# Altium integrated library Microchip PIC32MX.IntLib: 556 symbols (part 27 of 38)
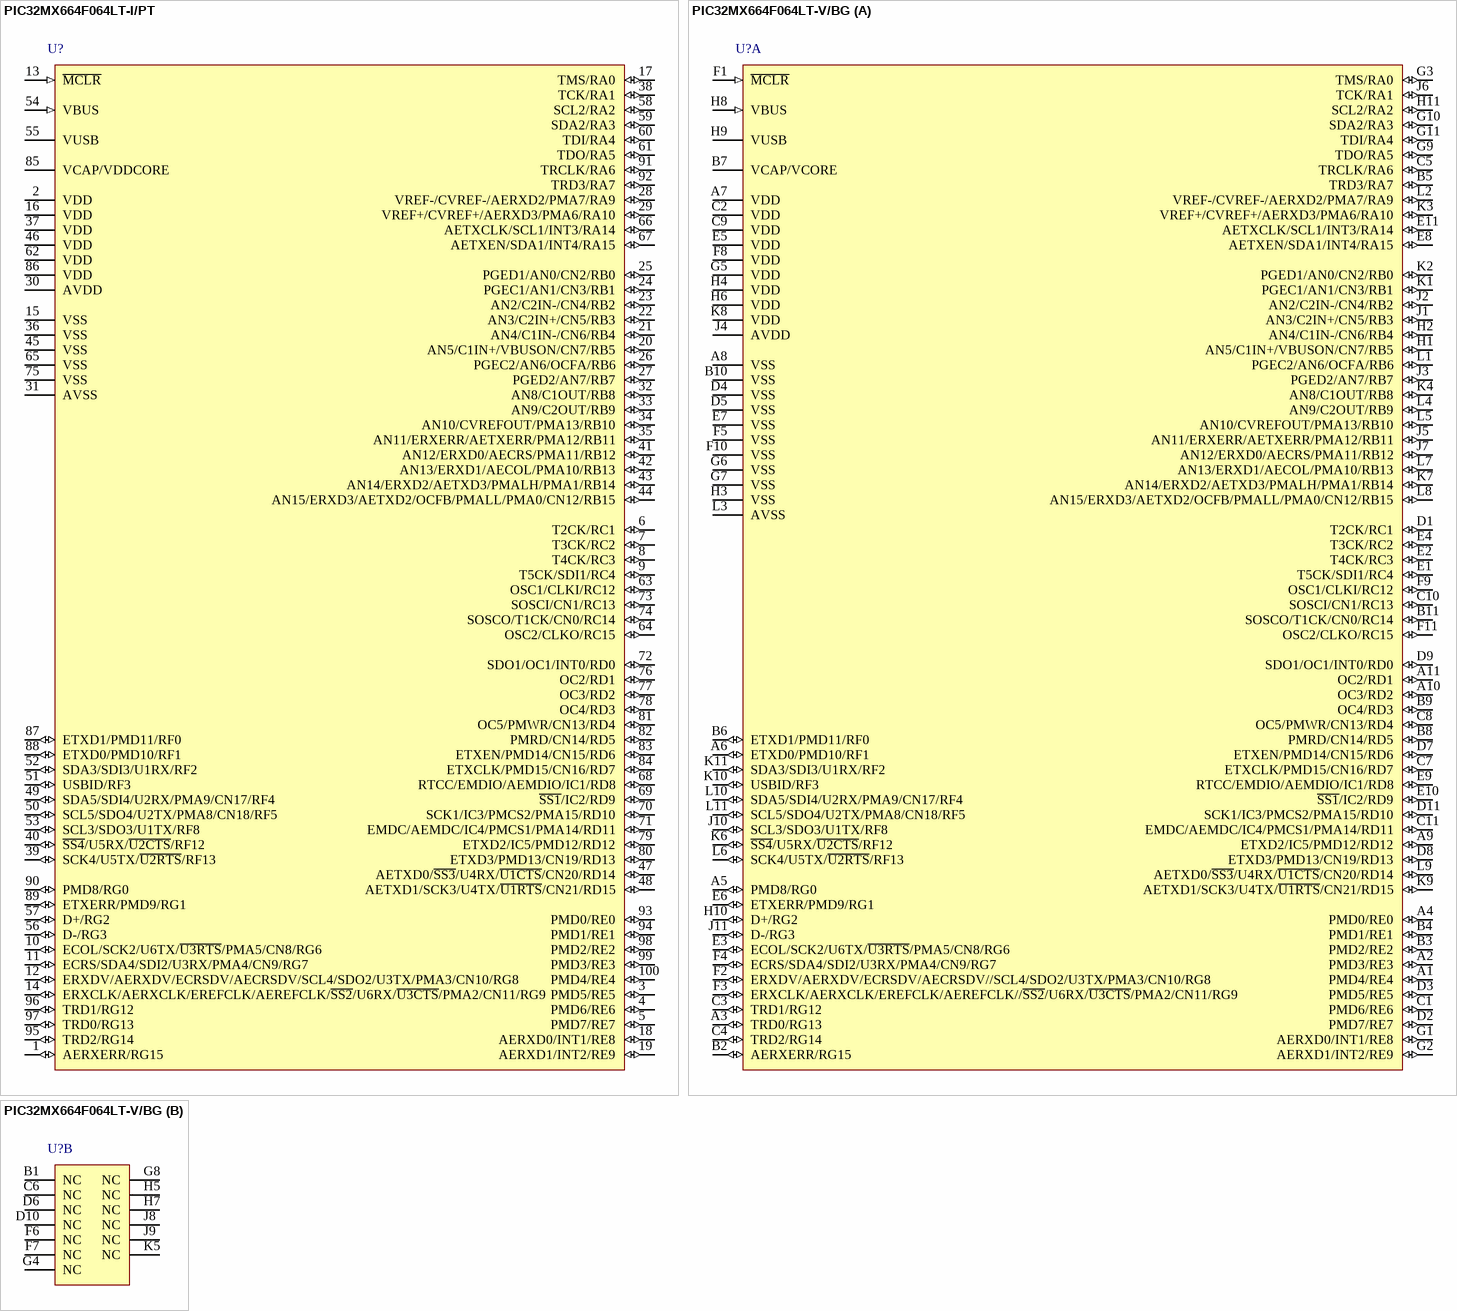
[diagram p218: symbols PIC32MX664F064LT-I/PT to PIC32MX664F064LT-V/BG]

## PIC32MX664F064LT-V/BG
designator U?
High Performance 80 MHz MIPS-Based 32-Bit Flash Microcontroller with USB and Ethernet, 64KB Program Memory, 121-pin XBGA, V-Temperature, Tape and Reel; Manufacturer: Microchip; PartNumber: PIC32MX664F064LT-V/BG; DatasheetVersion: revG, May-2011; PackageVersion: revBB, Aug-2009; PackageReference: XBGA-BG121; PackageDescription: 121-Lead Plastic Thin Profile Ball Grid Array (BG) - 10x10x1.10 mm Body [XBGA]; Supplier 1: Digi-Key; Supplier Part Number 1: PIC32MX664F064LT-V/BG-ND; Mounting Technology: Surface Mount; ComponentLink1Description: Manufacturer URL; ComponentLink1URL: http://www.microchip.com/; ComponentLink2Description: Datasheet; ComponentLink2URL: http://ww1.microchip.com/downloads/en/DeviceDoc/61156G.pdf; ComponentLink3Description: Package Specification; ComponentLink3URL: http://ww1.microchip.com/downloads/en/PackagingSpec/en012702.pdf
footprint XBGA-BG121 (BGA, 121-Leads, Body 10x10mm, Pitch 0.8mm)
part A pins: A1 PMD4/RE4 (io), A2 PMD3/RE3 (io), A3 TRD0/RG13 (io), A4 PMD0/RE0 (io), A5 PMD8/RG0 (io), A6 ETXD0/PMD10/RF1 (io), A7 VDD (power), A8 VSS (power), A9 ETXD2/IC5/PMD12/RD12 (io), A10 OC3/RD2 (io), A11 OC2/RD1 (io), B2 AERXERR/RG15 (io), B3 PMD2/RE2 (io), B4 PMD1/RE1 (io), B5 TRD3/RA7 (io), B6 ETXD1/PMD11/RF0 (io), B7 VCAP/VCORE (power), B8 PMRD/CN14/RD5 (io), B9 OC4/RD3 (io), B10 VSS (power), B11 SOSCO/T1CK/CN0/RC14 (io), C1 PMD6/RE6 (io), C2 VDD (power), C3 TRD1/RG12 (io), C4 TRD2/RG14 (io), C5 TRCLK/RA6 (io), C7 ETXCLK/PMD15/CN16/RD7 (io), C8 OC5/PMWR/CN13/RD4 (io), C9 VDD (power), C10 SOSCI/CN1/RC13 (io), C11 EMDC/AEMDC/IC4/PMCS1/PMA14/RD11 (io), D1 T2CK/RC1 (io), D2 PMD7/RE7 (io), D3 PMD5/RE5 (io), D4 VSS (power), D5 VSS (power), D7 ETXEN/PMD14/CN15/RD6 (io), D8 ETXD3/PMD13/CN19/RD13 (io), D9 SDO1/OC1/INT0/RD0 (io), D11 SCK1/IC3/PMCS2/PMA15/RD10 (io), E1 T5CK/SDI1/RC4 (io), E2 T4CK/RC3 (io), E3 ECOL/SCK2/U6TX/~{U3RTS}/PMA5/CN8/RG6 (io), E4 T3CK/RC2 (io), E5 VDD (power), E6 ETXERR/PMD9/RG1 (io), E7 VSS (power), E8 AETXEN/SDA1/INT4/RA15 (io), E9 RTCC/EMDIO/AEMDIO/IC1/RD8 (io), E10 ~{SS1}/IC2/RD9 (io), E11 AETXCLK/SCL1/INT3/RA14 (io), F1 ~{MCLR} (in), F2 ERXDV/AERXDV/ECRSDV/AECRSDV//SCL4/SDO2/U3TX/PMA3/CN10/RG8 (io), F3 ERXCLK/AERXCLK/EREFCLK/AEREFCLK//~{SS2}/U6RX/~{U3CTS}/PMA2/CN11/RG9 (io), F4 ECRS/SDA4/SDI2/U3RX/PMA4/CN9/RG7 (io), F5 VSS (power), F8 VDD (power), F9 OSC1/CLKI/RC12 (io), F10 VSS (power), F11 OSC2/CLKO/RC15 (io), G1 AERXD0/INT1/RE8 (io), G2 AERXD1/INT2/RE9 (io), G3 TMS/RA0 (io), G5 VDD (power), G6 VSS (power), G7 VSS (power), G9 TDO/RA5 (io), G10 SDA2/RA3 (io), G11 TDI/RA4 (io), H1 AN5/C1IN+/VBUSON/CN7/RB5 (io), H2 AN4/C1IN-/CN6/RB4 (io), H3 VSS (power), H4 VDD (power), H6 VDD (power), H8 VBUS (in), H9 VUSB (power), H10 D+/RG2 (io), H11 SCL2/RA2 (io), J1 AN3/C2IN+/CN5/RB3 (io), J2 AN2/C2IN-/CN4/RB2 (io), J3 PGED2/AN7/RB7 (io), J4 AVDD (power), J5 AN11/ERXERR/AETXERR/PMA12/RB11 (io), J6 TCK/RA1 (io), J7 AN12/ERXD0/AECRS/PMA11/RB12 (io), J10 SCL3/SDO3/U1TX/RF8 (io), J11 D-/RG3 (io), K1 PGEC1/AN1/CN3/RB1 (io), K2 PGED1/AN0/CN2/RB0 (io), K3 VREF+/CVREF+/AERXD3/PMA6/RA10 (io), K4 AN8/C1OUT/RB8 (io), K6 ~{SS4}/U5RX/~{U2CTS}/RF12 (io), K7 AN14/ERXD2/AETXD3/PMALH/PMA1/RB14 (io), K8 VDD (power), K9 AETXD1/SCK3/U4TX/~{U1RTS}/CN21/RD15 (io), K10 USBID/RF3 (io), K11 SDA3/SDI3/U1RX/RF2 (io), L1 PGEC2/AN6/OCFA/RB6 (io), L2 VREF-/CVREF-/AERXD2/PMA7/RA9 (io), L3 AVSS (power), L4 AN9/C2OUT/RB9 (io), L5 AN10/CVREFOUT/PMA13/RB10 (io), L6 SCK4/U5TX/~{U2RTS}/RF13 (io), L7 AN13/ERXD1/AECOL/PMA10/RB13 (io), L8 AN15/ERXD3/AETXD2/OCFB/PMALL/PMA0/CN12/RB15 (io), L9 AETXD0/~{SS3}/U4RX/~{U1CTS}/CN20/RD14 (io), L10 SDA5/SDI4/U2RX/PMA9/CN17/RF4 (io), L11 SCL5/SDO4/U2TX/PMA8/CN18/RF5 (io)
part B pins: B1 NC, C6 NC, D6 NC, D10 NC, F6 NC, F7 NC, G4 NC, G8 NC, H5 NC, H7 NC, J8 NC, J9 NC, K5 NC

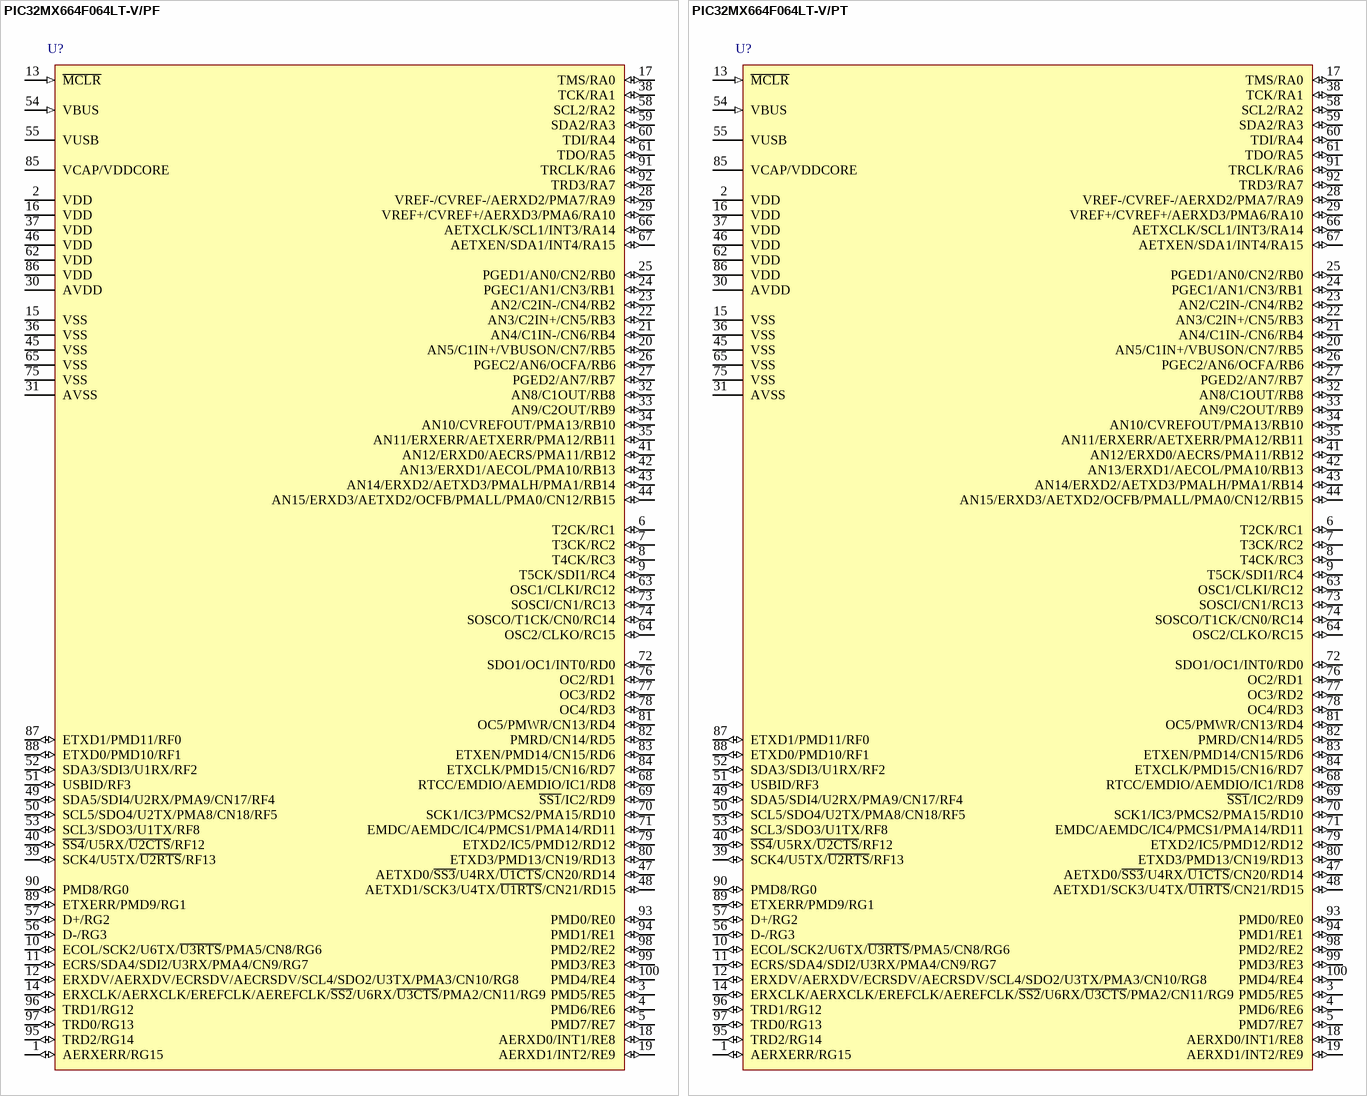
[diagram p128: symbols PIC32MX664F064LT-V/PF to PIC32MX664F064LT-V/PT]

## PIC32MX664F064LT-V/PF
designator U?
High Performance 80 MHz MIPS-Based 32-Bit Flash Microcontroller with USB and Ethernet, 64KB Program Memory, 100-pin TQFP, V-Temperature, Tape and Reel; Manufacturer: Microchip; PartNumber: PIC32MX664F064LT-V/PF; DatasheetVersion: revG, May-2011; PackageVersion: revBB, Aug-2009; PackageReference: TQFP-PF100; PackageDescription: 100-Lead Thin Plastic Quad Flat Pack (PF) - 14x14x1mm Body, 2.00mm [TQFP]; Supplier 1: Digi-Key; Supplier Part Number 1: PIC32MX664F064LT-V/PF-ND; Mounting Technology: Surface Mount; ComponentLink1Description: Manufacturer URL; ComponentLink1URL: http://www.microchip.com/; ComponentLink2Description: Datasheet; ComponentLink2URL: http://ww1.microchip.com/downloads/en/DeviceDoc/61156G.pdf; ComponentLink3Description: Package Specification; ComponentLink3URL: http://ww1.microchip.com/downloads/en/PackagingSpec/en012702.pdf
footprint TQFP-PF100_N (Thin QFP, 100-Leads, Body 14x14mm, Pitch 0.5mm, IPC Medium Density)
footprint TQFP-PF100_L (Thin QFP, 100-Leads, Body 14x14mm, Pitch 0.5mm, IPC High Density)
footprint TQFP-PF100_M (Thin QFP, 100-Leads, Body 14x14mm, Pitch 0.5mm, IPC Low Density)
pins: 1 AERXERR/RG15 (io), 2 VDD (power), 3 PMD5/RE5 (io), 4 PMD6/RE6 (io), 5 PMD7/RE7 (io), 6 T2CK/RC1 (io), 7 T3CK/RC2 (io), 8 T4CK/RC3 (io), 9 T5CK/SDI1/RC4 (io), 10 ECOL/SCK2/U6TX/~{U3RTS}/PMA5/CN8/RG6 (io), 11 ECRS/SDA4/SDI2/U3RX/PMA4/CN9/RG7 (io), 12 ERXDV/AERXDV/ECRSDV/AECRSDV/SCL4/SDO2/U3TX/PMA3/CN10/RG8 (io), 13 ~{MCLR} (in), 14 ERXCLK/AERXCLK/EREFCLK/AEREFCLK/~{SS2}/U6RX/~{U3CTS}/PMA2/CN11/RG9 (io), 15 VSS (power), 16 VDD (power), 17 TMS/RA0 (io), 18 AERXD0/INT1/RE8 (io), 19 AERXD1/INT2/RE9 (io), 20 AN5/C1IN+/VBUSON/CN7/RB5 (io), 21 AN4/C1IN-/CN6/RB4 (io), 22 AN3/C2IN+/CN5/RB3 (io), 23 AN2/C2IN-/CN4/RB2 (io), 24 PGEC1/AN1/CN3/RB1 (io), 25 PGED1/AN0/CN2/RB0 (io), 26 PGEC2/AN6/OCFA/RB6 (io), 27 PGED2/AN7/RB7 (io), 28 VREF-/CVREF-/AERXD2/PMA7/RA9 (io), 29 VREF+/CVREF+/AERXD3/PMA6/RA10 (io), 30 AVDD (power), 31 AVSS (power), 32 AN8/C1OUT/RB8 (io), 33 AN9/C2OUT/RB9 (io), 34 AN10/CVREFOUT/PMA13/RB10 (io), 35 AN11/ERXERR/AETXERR/PMA12/RB11 (io), 36 VSS (power), 37 VDD (power), 38 TCK/RA1 (io), 39 SCK4/U5TX/~{U2RTS}/RF13 (io), 40 ~{SS4}/U5RX/~{U2CTS}/RF12 (io), 41 AN12/ERXD0/AECRS/PMA11/RB12 (io), 42 AN13/ERXD1/AECOL/PMA10/RB13 (io), 43 AN14/ERXD2/AETXD3/PMALH/PMA1/RB14 (io), 44 AN15/ERXD3/AETXD2/OCFB/PMALL/PMA0/CN12/RB15 (io), 45 VSS (power), 46 VDD (power), 47 AETXD0/~{SS3}/U4RX/~{U1CTS}/CN20/RD14 (io), 48 AETXD1/SCK3/U4TX/~{U1RTS}/CN21/RD15 (io), 49 SDA5/SDI4/U2RX/PMA9/CN17/RF4 (io), 50 SCL5/SDO4/U2TX/PMA8/CN18/RF5 (io), 51 USBID/RF3 (io), 52 SDA3/SDI3/U1RX/RF2 (io), 53 SCL3/SDO3/U1TX/RF8 (io), 54 VBUS (in), 55 VUSB (power), 56 D-/RG3 (io), 57 D+/RG2 (io), 58 SCL2/RA2 (io), 59 SDA2/RA3 (io), 60 TDI/RA4 (io), 61 TDO/RA5 (io), 62 VDD (power), 63 OSC1/CLKI/RC12 (io), 64 OSC2/CLKO/RC15 (io), 65 VSS (power), 66 AETXCLK/SCL1/INT3/RA14 (io), 67 AETXEN/SDA1/INT4/RA15 (io), 68 RTCC/EMDIO/AEMDIO/IC1/RD8 (io), 69 ~{SS1}/IC2/RD9 (io), 70 SCK1/IC3/PMCS2/PMA15/RD10 (io), 71 EMDC/AEMDC/IC4/PMCS1/PMA14/RD11 (io), 72 SDO1/OC1/INT0/RD0 (io), 73 SOSCI/CN1/RC13 (io), 74 SOSCO/T1CK/CN0/RC14 (io), 75 VSS (power), 76 OC2/RD1 (io), 77 OC3/RD2 (io), 78 OC4/RD3 (io), 79 ETXD2/IC5/PMD12/RD12 (io), 80 ETXD3/PMD13/CN19/RD13 (io), 81 OC5/PMWR/CN13/RD4 (io), 82 PMRD/CN14/RD5 (io), 83 ETXEN/PMD14/CN15/RD6 (io), 84 ETXCLK/PMD15/CN16/RD7 (io), 85 VCAP/VDDCORE (power), 86 VDD (power), 87 ETXD1/PMD11/RF0 (io), 88 ETXD0/PMD10/RF1 (io), 89 ETXERR/PMD9/RG1 (io), 90 PMD8/RG0 (io), 91 TRCLK/RA6 (io), 92 TRD3/RA7 (io), 93 PMD0/RE0 (io), 94 PMD1/RE1 (io), 95 TRD2/RG14 (io), 96 TRD1/RG12 (io), 97 TRD0/RG13 (io), 98 PMD2/RE2 (io), 99 PMD3/RE3 (io), 100 PMD4/RE4 (io)

## PIC32MX664F064LT-V/PT
designator U?
High Performance 80 MHz MIPS-Based 32-Bit Flash Microcontroller with USB and Ethernet, 64KB Program Memory, 100-pin TQFP, V-Temperature, Tape and Reel; Manufacturer: Microchip; PartNumber: PIC32MX664F064LT-V/PT; DatasheetVersion: revG, May-2011; PackageVersion: revBB, Aug-2009; PackageReference: TQFP-PT100; PackageDescription: 100-Lead Plastic Thin Quad Flatpack (PT) - 12x12x1mm Body, 2.00mm [TQFP]; Supplier 1: Digi-Key; Supplier Part Number 1: PIC32MX664F064LT-V/PT-ND; Mounting Technology: Surface Mount; ComponentLink1Description: Manufacturer URL; ComponentLink1URL: http://www.microchip.com/; ComponentLink2Description: Datasheet; ComponentLink2URL: http://ww1.microchip.com/downloads/en/DeviceDoc/61156G.pdf; ComponentLink3Description: Package Specification; ComponentLink3URL: http://ww1.microchip.com/downloads/en/PackagingSpec/en012702.pdf
footprint TQFP-PT100_N (Thin QFP, 100-Leads, Body 12x12mm, Pitch 0.4mm, IPC Medium Density)
footprint TQFP-PT100_L (Thin QFP, 100-Leads, Body 12x12mm, Pitch 0.4mm, IPC High Density)
footprint TQFP-PT100_M (Thin QFP, 100-Leads, Body 12x12mm, Pitch 0.4mm, IPC Low Density)
pins: 1 AERXERR/RG15 (io), 2 VDD (power), 3 PMD5/RE5 (io), 4 PMD6/RE6 (io), 5 PMD7/RE7 (io), 6 T2CK/RC1 (io), 7 T3CK/RC2 (io), 8 T4CK/RC3 (io), 9 T5CK/SDI1/RC4 (io), 10 ECOL/SCK2/U6TX/~{U3RTS}/PMA5/CN8/RG6 (io), 11 ECRS/SDA4/SDI2/U3RX/PMA4/CN9/RG7 (io), 12 ERXDV/AERXDV/ECRSDV/AECRSDV/SCL4/SDO2/U3TX/PMA3/CN10/RG8 (io), 13 ~{MCLR} (in), 14 ERXCLK/AERXCLK/EREFCLK/AEREFCLK/~{SS2}/U6RX/~{U3CTS}/PMA2/CN11/RG9 (io), 15 VSS (power), 16 VDD (power), 17 TMS/RA0 (io), 18 AERXD0/INT1/RE8 (io), 19 AERXD1/INT2/RE9 (io), 20 AN5/C1IN+/VBUSON/CN7/RB5 (io), 21 AN4/C1IN-/CN6/RB4 (io), 22 AN3/C2IN+/CN5/RB3 (io), 23 AN2/C2IN-/CN4/RB2 (io), 24 PGEC1/AN1/CN3/RB1 (io), 25 PGED1/AN0/CN2/RB0 (io), 26 PGEC2/AN6/OCFA/RB6 (io), 27 PGED2/AN7/RB7 (io), 28 VREF-/CVREF-/AERXD2/PMA7/RA9 (io), 29 VREF+/CVREF+/AERXD3/PMA6/RA10 (io), 30 AVDD (power), 31 AVSS (power), 32 AN8/C1OUT/RB8 (io), 33 AN9/C2OUT/RB9 (io), 34 AN10/CVREFOUT/PMA13/RB10 (io), 35 AN11/ERXERR/AETXERR/PMA12/RB11 (io), 36 VSS (power), 37 VDD (power), 38 TCK/RA1 (io), 39 SCK4/U5TX/~{U2RTS}/RF13 (io), 40 ~{SS4}/U5RX/~{U2CTS}/RF12 (io), 41 AN12/ERXD0/AECRS/PMA11/RB12 (io), 42 AN13/ERXD1/AECOL/PMA10/RB13 (io), 43 AN14/ERXD2/AETXD3/PMALH/PMA1/RB14 (io), 44 AN15/ERXD3/AETXD2/OCFB/PMALL/PMA0/CN12/RB15 (io), 45 VSS (power), 46 VDD (power), 47 AETXD0/~{SS3}/U4RX/~{U1CTS}/CN20/RD14 (io), 48 AETXD1/SCK3/U4TX/~{U1RTS}/CN21/RD15 (io), 49 SDA5/SDI4/U2RX/PMA9/CN17/RF4 (io), 50 SCL5/SDO4/U2TX/PMA8/CN18/RF5 (io), 51 USBID/RF3 (io), 52 SDA3/SDI3/U1RX/RF2 (io), 53 SCL3/SDO3/U1TX/RF8 (io), 54 VBUS (in), 55 VUSB (power), 56 D-/RG3 (io), 57 D+/RG2 (io), 58 SCL2/RA2 (io), 59 SDA2/RA3 (io), 60 TDI/RA4 (io), 61 TDO/RA5 (io), 62 VDD (power), 63 OSC1/CLKI/RC12 (io), 64 OSC2/CLKO/RC15 (io), 65 VSS (power), 66 AETXCLK/SCL1/INT3/RA14 (io), 67 AETXEN/SDA1/INT4/RA15 (io), 68 RTCC/EMDIO/AEMDIO/IC1/RD8 (io), 69 ~{SS1}/IC2/RD9 (io), 70 SCK1/IC3/PMCS2/PMA15/RD10 (io), 71 EMDC/AEMDC/IC4/PMCS1/PMA14/RD11 (io), 72 SDO1/OC1/INT0/RD0 (io), 73 SOSCI/CN1/RC13 (io), 74 SOSCO/T1CK/CN0/RC14 (io), 75 VSS (power), 76 OC2/RD1 (io), 77 OC3/RD2 (io), 78 OC4/RD3 (io), 79 ETXD2/IC5/PMD12/RD12 (io), 80 ETXD3/PMD13/CN19/RD13 (io), 81 OC5/PMWR/CN13/RD4 (io), 82 PMRD/CN14/RD5 (io), 83 ETXEN/PMD14/CN15/RD6 (io), 84 ETXCLK/PMD15/CN16/RD7 (io), 85 VCAP/VDDCORE (power), 86 VDD (power), 87 ETXD1/PMD11/RF0 (io), 88 ETXD0/PMD10/RF1 (io), 89 ETXERR/PMD9/RG1 (io), 90 PMD8/RG0 (io), 91 TRCLK/RA6 (io), 92 TRD3/RA7 (io), 93 PMD0/RE0 (io), 94 PMD1/RE1 (io), 95 TRD2/RG14 (io), 96 TRD1/RG12 (io), 97 TRD0/RG13 (io), 98 PMD2/RE2 (io), 99 PMD3/RE3 (io), 100 PMD4/RE4 (io)

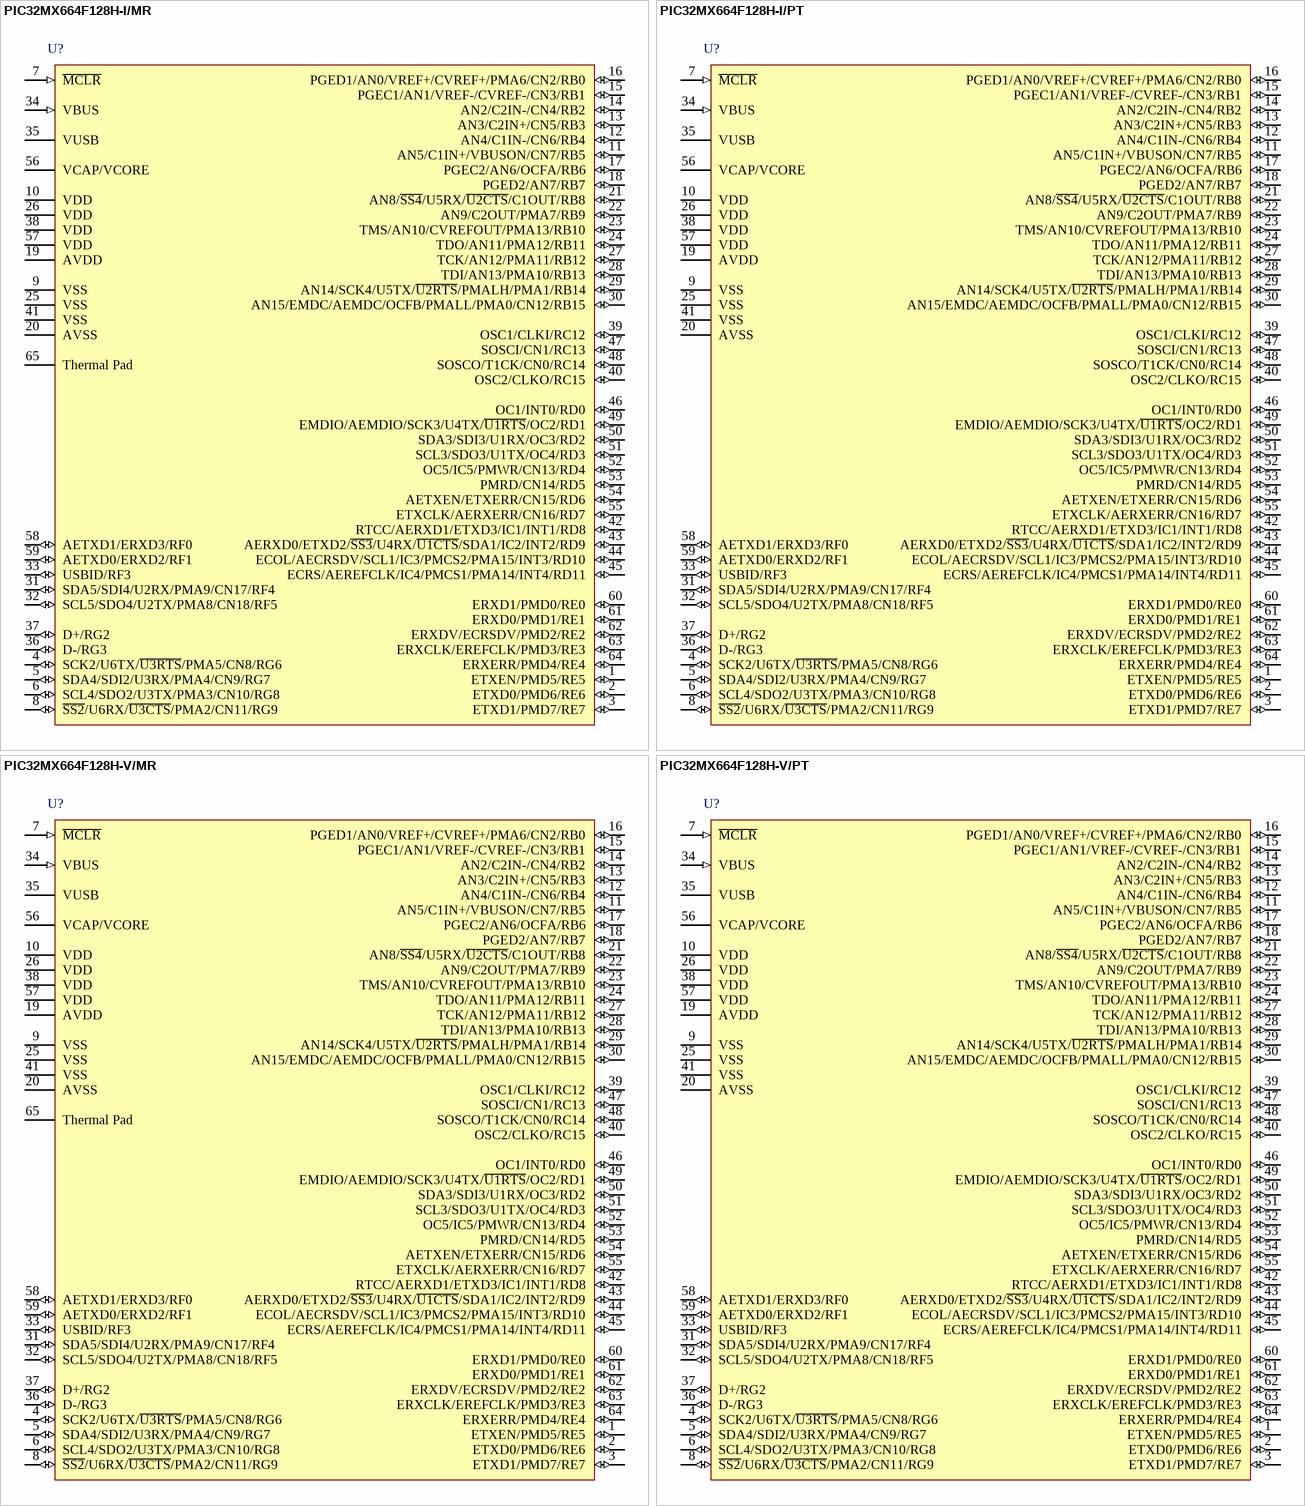
[diagram p129: symbols PIC32MX664F128H-I/MR to PIC32MX664F128H-V/PT]

## PIC32MX664F128H-I/MR
designator U?
High Performance 80 MHz MIPS-Based 32-Bit Flash Microcontroller with USB and Ethernet, 128KB Program Memory, 64-pin QFN, Industrial Temperature; Manufacturer: Microchip; PartNumber: PIC32MX664F128H-I/MR; DatasheetVersion: revG, May-2011; PackageVersion: revBB, Aug-2009; PackageReference: QFN-MR64; PackageDescription: 64-Lead Plastic Quad Flat, No Lead Package (MR) - 9x9x0.9 mm Body [QFN]; Supplier 1: Digi-Key; Supplier Part Number 1: PIC32MX664F128H-I/MR-ND; Mounting Technology: Surface Mount; ComponentLink1Description: Manufacturer URL; ComponentLink1URL: http://www.microchip.com/; ComponentLink2Description: Datasheet; ComponentLink2URL: http://ww1.microchip.com/downloads/en/DeviceDoc/61156G.pdf; ComponentLink3Description: Package Specification; ComponentLink3URL: http://ww1.microchip.com/downloads/en/PackagingSpec/en012702.pdf
footprint QFN-MR64_N (QFN, 64-Leads, Body 9x9mm, Pitch 0.5mm, Thermal Pad 7.5x7.5mm, IPC Medium Density)
footprint QFN-MR64_L (QFN, 64-Leads, Body 9x9mm, Pitch 0.5mm, Thermal Pad 7.5x7.5mm, IPC High Density)
footprint QFN-MR64_M (QFN, 64-Leads, Body 9x9mm, Pitch 0.5mm, Thermal Pad 7.5x7.5mm, IPC Low Density)
pins: 1 ETXEN/PMD5/RE5 (io), 2 ETXD0/PMD6/RE6 (io), 3 ETXD1/PMD7/RE7 (io), 4 SCK2/U6TX/~{U3RTS}/PMA5/CN8/RG6 (io), 5 SDA4/SDI2/U3RX/PMA4/CN9/RG7 (io), 6 SCL4/SDO2/U3TX/PMA3/CN10/RG8 (io), 7 ~{MCLR} (in), 8 ~{SS2}/U6RX/~{U3CTS}/PMA2/CN11/RG9 (io), 9 VSS (power), 10 VDD (power), 11 AN5/C1IN+/VBUSON/CN7/RB5 (io), 12 AN4/C1IN-/CN6/RB4 (io), 13 AN3/C2IN+/CN5/RB3 (io), 14 AN2/C2IN-/CN4/RB2 (io), 15 PGEC1/AN1/VREF-/CVREF-/CN3/RB1 (io), 16 PGED1/AN0/VREF+/CVREF+/PMA6/CN2/RB0 (io), 17 PGEC2/AN6/OCFA/RB6 (io), 18 PGED2/AN7/RB7 (io), 19 AVDD (power), 20 AVSS (power), 21 AN8/~{SS4}/U5RX/~{U2CTS}/C1OUT/RB8 (io), 22 AN9/C2OUT/PMA7/RB9 (io), 23 TMS/AN10/CVREFOUT/PMA13/RB10 (io), 24 TDO/AN11/PMA12/RB11 (io), 25 VSS (power), 26 VDD (power), 27 TCK/AN12/PMA11/RB12 (io), 28 TDI/AN13/PMA10/RB13 (io), 29 AN14/SCK4/U5TX/~{U2RTS}/PMALH/PMA1/RB14 (io), 30 AN15/EMDC/AEMDC/OCFB/PMALL/PMA0/CN12/RB15 (io), 31 SDA5/SDI4/U2RX/PMA9/CN17/RF4 (io), 32 SCL5/SDO4/U2TX/PMA8/CN18/RF5 (io), 33 USBID/RF3 (io), 34 VBUS (in), 35 VUSB (power), 36 D-/RG3 (io), 37 D+/RG2 (io), 38 VDD (power), 39 OSC1/CLKI/RC12 (io), 40 OSC2/CLKO/RC15 (io), 41 VSS (power), 42 RTCC/AERXD1/ETXD3/IC1/INT1/RD8 (io), 43 AERXD0/ETXD2/~{SS3}/U4RX/~{U1CTS}/SDA1/IC2/INT2/RD9 (io), 44 ECOL/AECRSDV/SCL1/IC3/PMCS2/PMA15/INT3/RD10 (io), 45 ECRS/AEREFCLK/IC4/PMCS1/PMA14/INT4/RD11 (io), 46 OC1/INT0/RD0 (io), 47 SOSCI/CN1/RC13 (io), 48 SOSCO/T1CK/CN0/RC14 (io), 49 EMDIO/AEMDIO/SCK3/U4TX/~{U1RTS}/OC2/RD1 (io), 50 SDA3/SDI3/U1RX/OC3/RD2 (io), 51 SCL3/SDO3/U1TX/OC4/RD3 (io), 52 OC5/IC5/PMWR/CN13/RD4 (io), 53 PMRD/CN14/RD5 (io), 54 AETXEN/ETXERR/CN15/RD6 (io), 55 ETXCLK/AERXERR/CN16/RD7 (io), 56 VCAP/VCORE (power), 57 VDD (power), 58 AETXD1/ERXD3/RF0 (io), 59 AETXD0/ERXD2/RF1 (io), 60 ERXD1/PMD0/RE0 (io), 61 ERXD0/PMD1/RE1 (io), 62 ERXDV/ECRSDV/PMD2/RE2 (io), 63 ERXCLK/EREFCLK/PMD3/RE3 (io), 64 ERXERR/PMD4/RE4 (io), 65 Thermal Pad

## PIC32MX664F128H-I/PT
designator U?
High Performance 80 MHz MIPS-Based 32-Bit Flash Microcontroller with USB and Ethernet, 128KB Program Memory, 64-pin TQFP, Industrial Temperature; Manufacturer: Microchip; PartNumber: PIC32MX664F128H-I/PT; DatasheetVersion: revG, May-2011; PackageVersion: revBB, Aug-2009; PackageReference: TQFP-PT64; PackageDescription: 64-Lead Thin Plastic Quad Flat Pack (PT) - 10x10x1mm Body, 2.00mm [TQFP]; Supplier 1: Digi-Key; Supplier Part Number 1: PIC32MX664F128H-I/PT-ND; Mounting Technology: Surface Mount; Code_JEDEC: MS-026; ComponentLink1Description: Manufacturer URL; ComponentLink1URL: http://www.microchip.com/; ComponentLink2Description: Datasheet; ComponentLink2URL: http://ww1.microchip.com/downloads/en/DeviceDoc/61156G.pdf; ComponentLink3Description: Package Specification; ComponentLink3URL: http://ww1.microchip.com/downloads/en/PackagingSpec/en012702.pdf
footprint TQFP-PT64_N (Thin QFP, 64-Leads, Body 10x10mm, Pitch 0.5mm, IPC Medium Density)
footprint TQFP-PT64_L (Thin QFP, 64-Leads, Body 10x10mm, Pitch 0.5mm, IPC High Density)
footprint TQFP-PT64_M (Thin QFP, 64-Leads, Body 10x10mm, Pitch 0.5mm, IPC Low Density)
pins: 1 ETXEN/PMD5/RE5 (io), 2 ETXD0/PMD6/RE6 (io), 3 ETXD1/PMD7/RE7 (io), 4 SCK2/U6TX/~{U3RTS}/PMA5/CN8/RG6 (io), 5 SDA4/SDI2/U3RX/PMA4/CN9/RG7 (io), 6 SCL4/SDO2/U3TX/PMA3/CN10/RG8 (io), 7 ~{MCLR} (in), 8 ~{SS2}/U6RX/~{U3CTS}/PMA2/CN11/RG9 (io), 9 VSS (power), 10 VDD (power), 11 AN5/C1IN+/VBUSON/CN7/RB5 (io), 12 AN4/C1IN-/CN6/RB4 (io), 13 AN3/C2IN+/CN5/RB3 (io), 14 AN2/C2IN-/CN4/RB2 (io), 15 PGEC1/AN1/VREF-/CVREF-/CN3/RB1 (io), 16 PGED1/AN0/VREF+/CVREF+/PMA6/CN2/RB0 (io), 17 PGEC2/AN6/OCFA/RB6 (io), 18 PGED2/AN7/RB7 (io), 19 AVDD (power), 20 AVSS (power), 21 AN8/~{SS4}/U5RX/~{U2CTS}/C1OUT/RB8 (io), 22 AN9/C2OUT/PMA7/RB9 (io), 23 TMS/AN10/CVREFOUT/PMA13/RB10 (io), 24 TDO/AN11/PMA12/RB11 (io), 25 VSS (power), 26 VDD (power), 27 TCK/AN12/PMA11/RB12 (io), 28 TDI/AN13/PMA10/RB13 (io), 29 AN14/SCK4/U5TX/~{U2RTS}/PMALH/PMA1/RB14 (io), 30 AN15/EMDC/AEMDC/OCFB/PMALL/PMA0/CN12/RB15 (io), 31 SDA5/SDI4/U2RX/PMA9/CN17/RF4 (io), 32 SCL5/SDO4/U2TX/PMA8/CN18/RF5 (io), 33 USBID/RF3 (io), 34 VBUS (in), 35 VUSB (power), 36 D-/RG3 (io), 37 D+/RG2 (io), 38 VDD (power), 39 OSC1/CLKI/RC12 (io), 40 OSC2/CLKO/RC15 (io), 41 VSS (power), 42 RTCC/AERXD1/ETXD3/IC1/INT1/RD8 (io), 43 AERXD0/ETXD2/~{SS3}/U4RX/~{U1CTS}/SDA1/IC2/INT2/RD9 (io), 44 ECOL/AECRSDV/SCL1/IC3/PMCS2/PMA15/INT3/RD10 (io), 45 ECRS/AEREFCLK/IC4/PMCS1/PMA14/INT4/RD11 (io), 46 OC1/INT0/RD0 (io), 47 SOSCI/CN1/RC13 (io), 48 SOSCO/T1CK/CN0/RC14 (io), 49 EMDIO/AEMDIO/SCK3/U4TX/~{U1RTS}/OC2/RD1 (io), 50 SDA3/SDI3/U1RX/OC3/RD2 (io), 51 SCL3/SDO3/U1TX/OC4/RD3 (io), 52 OC5/IC5/PMWR/CN13/RD4 (io), 53 PMRD/CN14/RD5 (io), 54 AETXEN/ETXERR/CN15/RD6 (io), 55 ETXCLK/AERXERR/CN16/RD7 (io), 56 VCAP/VCORE (power), 57 VDD (power), 58 AETXD1/ERXD3/RF0 (io), 59 AETXD0/ERXD2/RF1 (io), 60 ERXD1/PMD0/RE0 (io), 61 ERXD0/PMD1/RE1 (io), 62 ERXDV/ECRSDV/PMD2/RE2 (io), 63 ERXCLK/EREFCLK/PMD3/RE3 (io), 64 ERXERR/PMD4/RE4 (io)

## PIC32MX664F128H-V/MR
designator U?
High Performance 80 MHz MIPS-Based 32-Bit Flash Microcontroller with USB and Ethernet, 128KB Program Memory, 64-pin QFN, V-Temperature; Manufacturer: Microchip; PartNumber: PIC32MX664F128H-V/MR; DatasheetVersion: revG, May-2011; PackageVersion: revBB, Aug-2009; PackageReference: QFN-MR64; PackageDescription: 64-Lead Plastic Quad Flat, No Lead Package (MR) - 9x9x0.9 mm Body [QFN]; Supplier 1: Digi-Key; Supplier Part Number 1: PIC32MX664F128H-V/MR-ND; Mounting Technology: Surface Mount; ComponentLink1Description: Manufacturer URL; ComponentLink1URL: http://www.microchip.com/; ComponentLink2Description: Datasheet; ComponentLink2URL: http://ww1.microchip.com/downloads/en/DeviceDoc/61156G.pdf; ComponentLink3Description: Package Specification; ComponentLink3URL: http://ww1.microchip.com/downloads/en/PackagingSpec/en012702.pdf
footprint QFN-MR64_N (QFN, 64-Leads, Body 9x9mm, Pitch 0.5mm, Thermal Pad 7.5x7.5mm, IPC Medium Density)
footprint QFN-MR64_L (QFN, 64-Leads, Body 9x9mm, Pitch 0.5mm, Thermal Pad 7.5x7.5mm, IPC High Density)
footprint QFN-MR64_M (QFN, 64-Leads, Body 9x9mm, Pitch 0.5mm, Thermal Pad 7.5x7.5mm, IPC Low Density)
pins: 1 ETXEN/PMD5/RE5 (io), 2 ETXD0/PMD6/RE6 (io), 3 ETXD1/PMD7/RE7 (io), 4 SCK2/U6TX/~{U3RTS}/PMA5/CN8/RG6 (io), 5 SDA4/SDI2/U3RX/PMA4/CN9/RG7 (io), 6 SCL4/SDO2/U3TX/PMA3/CN10/RG8 (io), 7 ~{MCLR} (in), 8 ~{SS2}/U6RX/~{U3CTS}/PMA2/CN11/RG9 (io), 9 VSS (power), 10 VDD (power), 11 AN5/C1IN+/VBUSON/CN7/RB5 (io), 12 AN4/C1IN-/CN6/RB4 (io), 13 AN3/C2IN+/CN5/RB3 (io), 14 AN2/C2IN-/CN4/RB2 (io), 15 PGEC1/AN1/VREF-/CVREF-/CN3/RB1 (io), 16 PGED1/AN0/VREF+/CVREF+/PMA6/CN2/RB0 (io), 17 PGEC2/AN6/OCFA/RB6 (io), 18 PGED2/AN7/RB7 (io), 19 AVDD (power), 20 AVSS (power), 21 AN8/~{SS4}/U5RX/~{U2CTS}/C1OUT/RB8 (io), 22 AN9/C2OUT/PMA7/RB9 (io), 23 TMS/AN10/CVREFOUT/PMA13/RB10 (io), 24 TDO/AN11/PMA12/RB11 (io), 25 VSS (power), 26 VDD (power), 27 TCK/AN12/PMA11/RB12 (io), 28 TDI/AN13/PMA10/RB13 (io), 29 AN14/SCK4/U5TX/~{U2RTS}/PMALH/PMA1/RB14 (io), 30 AN15/EMDC/AEMDC/OCFB/PMALL/PMA0/CN12/RB15 (io), 31 SDA5/SDI4/U2RX/PMA9/CN17/RF4 (io), 32 SCL5/SDO4/U2TX/PMA8/CN18/RF5 (io), 33 USBID/RF3 (io), 34 VBUS (in), 35 VUSB (power), 36 D-/RG3 (io), 37 D+/RG2 (io), 38 VDD (power), 39 OSC1/CLKI/RC12 (io), 40 OSC2/CLKO/RC15 (io), 41 VSS (power), 42 RTCC/AERXD1/ETXD3/IC1/INT1/RD8 (io), 43 AERXD0/ETXD2/~{SS3}/U4RX/~{U1CTS}/SDA1/IC2/INT2/RD9 (io), 44 ECOL/AECRSDV/SCL1/IC3/PMCS2/PMA15/INT3/RD10 (io), 45 ECRS/AEREFCLK/IC4/PMCS1/PMA14/INT4/RD11 (io), 46 OC1/INT0/RD0 (io), 47 SOSCI/CN1/RC13 (io), 48 SOSCO/T1CK/CN0/RC14 (io), 49 EMDIO/AEMDIO/SCK3/U4TX/~{U1RTS}/OC2/RD1 (io), 50 SDA3/SDI3/U1RX/OC3/RD2 (io), 51 SCL3/SDO3/U1TX/OC4/RD3 (io), 52 OC5/IC5/PMWR/CN13/RD4 (io), 53 PMRD/CN14/RD5 (io), 54 AETXEN/ETXERR/CN15/RD6 (io), 55 ETXCLK/AERXERR/CN16/RD7 (io), 56 VCAP/VCORE (power), 57 VDD (power), 58 AETXD1/ERXD3/RF0 (io), 59 AETXD0/ERXD2/RF1 (io), 60 ERXD1/PMD0/RE0 (io), 61 ERXD0/PMD1/RE1 (io), 62 ERXDV/ECRSDV/PMD2/RE2 (io), 63 ERXCLK/EREFCLK/PMD3/RE3 (io), 64 ERXERR/PMD4/RE4 (io), 65 Thermal Pad

## PIC32MX664F128H-V/PT
designator U?
High Performance 80 MHz MIPS-Based 32-Bit Flash Microcontroller with USB and Ethernet, 128KB Program Memory, 64-pin TQFP, V-Temperature; Manufacturer: Microchip; PartNumber: PIC32MX664F128H-V/PT; DatasheetVersion: revG, May-2011; PackageVersion: revBB, Aug-2009; PackageReference: TQFP-PT64; PackageDescription: 64-Lead Thin Plastic Quad Flat Pack (PT) - 10x10x1mm Body, 2.00mm [TQFP]; Supplier 1: Digi-Key; Supplier Part Number 1: PIC32MX664F128H-V/PT-ND; Mounting Technology: Surface Mount; Code_JEDEC: MS-026; ComponentLink1Description: Manufacturer URL; ComponentLink1URL: http://www.microchip.com/; ComponentLink2Description: Datasheet; ComponentLink2URL: http://ww1.microchip.com/downloads/en/DeviceDoc/61156G.pdf; ComponentLink3Description: Package Specification; ComponentLink3URL: http://ww1.microchip.com/downloads/en/PackagingSpec/en012702.pdf
footprint TQFP-PT64_N (Thin QFP, 64-Leads, Body 10x10mm, Pitch 0.5mm, IPC Medium Density)
footprint TQFP-PT64_L (Thin QFP, 64-Leads, Body 10x10mm, Pitch 0.5mm, IPC High Density)
footprint TQFP-PT64_M (Thin QFP, 64-Leads, Body 10x10mm, Pitch 0.5mm, IPC Low Density)
pins: 1 ETXEN/PMD5/RE5 (io), 2 ETXD0/PMD6/RE6 (io), 3 ETXD1/PMD7/RE7 (io), 4 SCK2/U6TX/~{U3RTS}/PMA5/CN8/RG6 (io), 5 SDA4/SDI2/U3RX/PMA4/CN9/RG7 (io), 6 SCL4/SDO2/U3TX/PMA3/CN10/RG8 (io), 7 ~{MCLR} (in), 8 ~{SS2}/U6RX/~{U3CTS}/PMA2/CN11/RG9 (io), 9 VSS (power), 10 VDD (power), 11 AN5/C1IN+/VBUSON/CN7/RB5 (io), 12 AN4/C1IN-/CN6/RB4 (io), 13 AN3/C2IN+/CN5/RB3 (io), 14 AN2/C2IN-/CN4/RB2 (io), 15 PGEC1/AN1/VREF-/CVREF-/CN3/RB1 (io), 16 PGED1/AN0/VREF+/CVREF+/PMA6/CN2/RB0 (io), 17 PGEC2/AN6/OCFA/RB6 (io), 18 PGED2/AN7/RB7 (io), 19 AVDD (power), 20 AVSS (power), 21 AN8/~{SS4}/U5RX/~{U2CTS}/C1OUT/RB8 (io), 22 AN9/C2OUT/PMA7/RB9 (io), 23 TMS/AN10/CVREFOUT/PMA13/RB10 (io), 24 TDO/AN11/PMA12/RB11 (io), 25 VSS (power), 26 VDD (power), 27 TCK/AN12/PMA11/RB12 (io), 28 TDI/AN13/PMA10/RB13 (io), 29 AN14/SCK4/U5TX/~{U2RTS}/PMALH/PMA1/RB14 (io), 30 AN15/EMDC/AEMDC/OCFB/PMALL/PMA0/CN12/RB15 (io), 31 SDA5/SDI4/U2RX/PMA9/CN17/RF4 (io), 32 SCL5/SDO4/U2TX/PMA8/CN18/RF5 (io), 33 USBID/RF3 (io), 34 VBUS (in), 35 VUSB (power), 36 D-/RG3 (io), 37 D+/RG2 (io), 38 VDD (power), 39 OSC1/CLKI/RC12 (io), 40 OSC2/CLKO/RC15 (io), 41 VSS (power), 42 RTCC/AERXD1/ETXD3/IC1/INT1/RD8 (io), 43 AERXD0/ETXD2/~{SS3}/U4RX/~{U1CTS}/SDA1/IC2/INT2/RD9 (io), 44 ECOL/AECRSDV/SCL1/IC3/PMCS2/PMA15/INT3/RD10 (io), 45 ECRS/AEREFCLK/IC4/PMCS1/PMA14/INT4/RD11 (io), 46 OC1/INT0/RD0 (io), 47 SOSCI/CN1/RC13 (io), 48 SOSCO/T1CK/CN0/RC14 (io), 49 EMDIO/AEMDIO/SCK3/U4TX/~{U1RTS}/OC2/RD1 (io), 50 SDA3/SDI3/U1RX/OC3/RD2 (io), 51 SCL3/SDO3/U1TX/OC4/RD3 (io), 52 OC5/IC5/PMWR/CN13/RD4 (io), 53 PMRD/CN14/RD5 (io), 54 AETXEN/ETXERR/CN15/RD6 (io), 55 ETXCLK/AERXERR/CN16/RD7 (io), 56 VCAP/VCORE (power), 57 VDD (power), 58 AETXD1/ERXD3/RF0 (io), 59 AETXD0/ERXD2/RF1 (io), 60 ERXD1/PMD0/RE0 (io), 61 ERXD0/PMD1/RE1 (io), 62 ERXDV/ECRSDV/PMD2/RE2 (io), 63 ERXCLK/EREFCLK/PMD3/RE3 (io), 64 ERXERR/PMD4/RE4 (io)

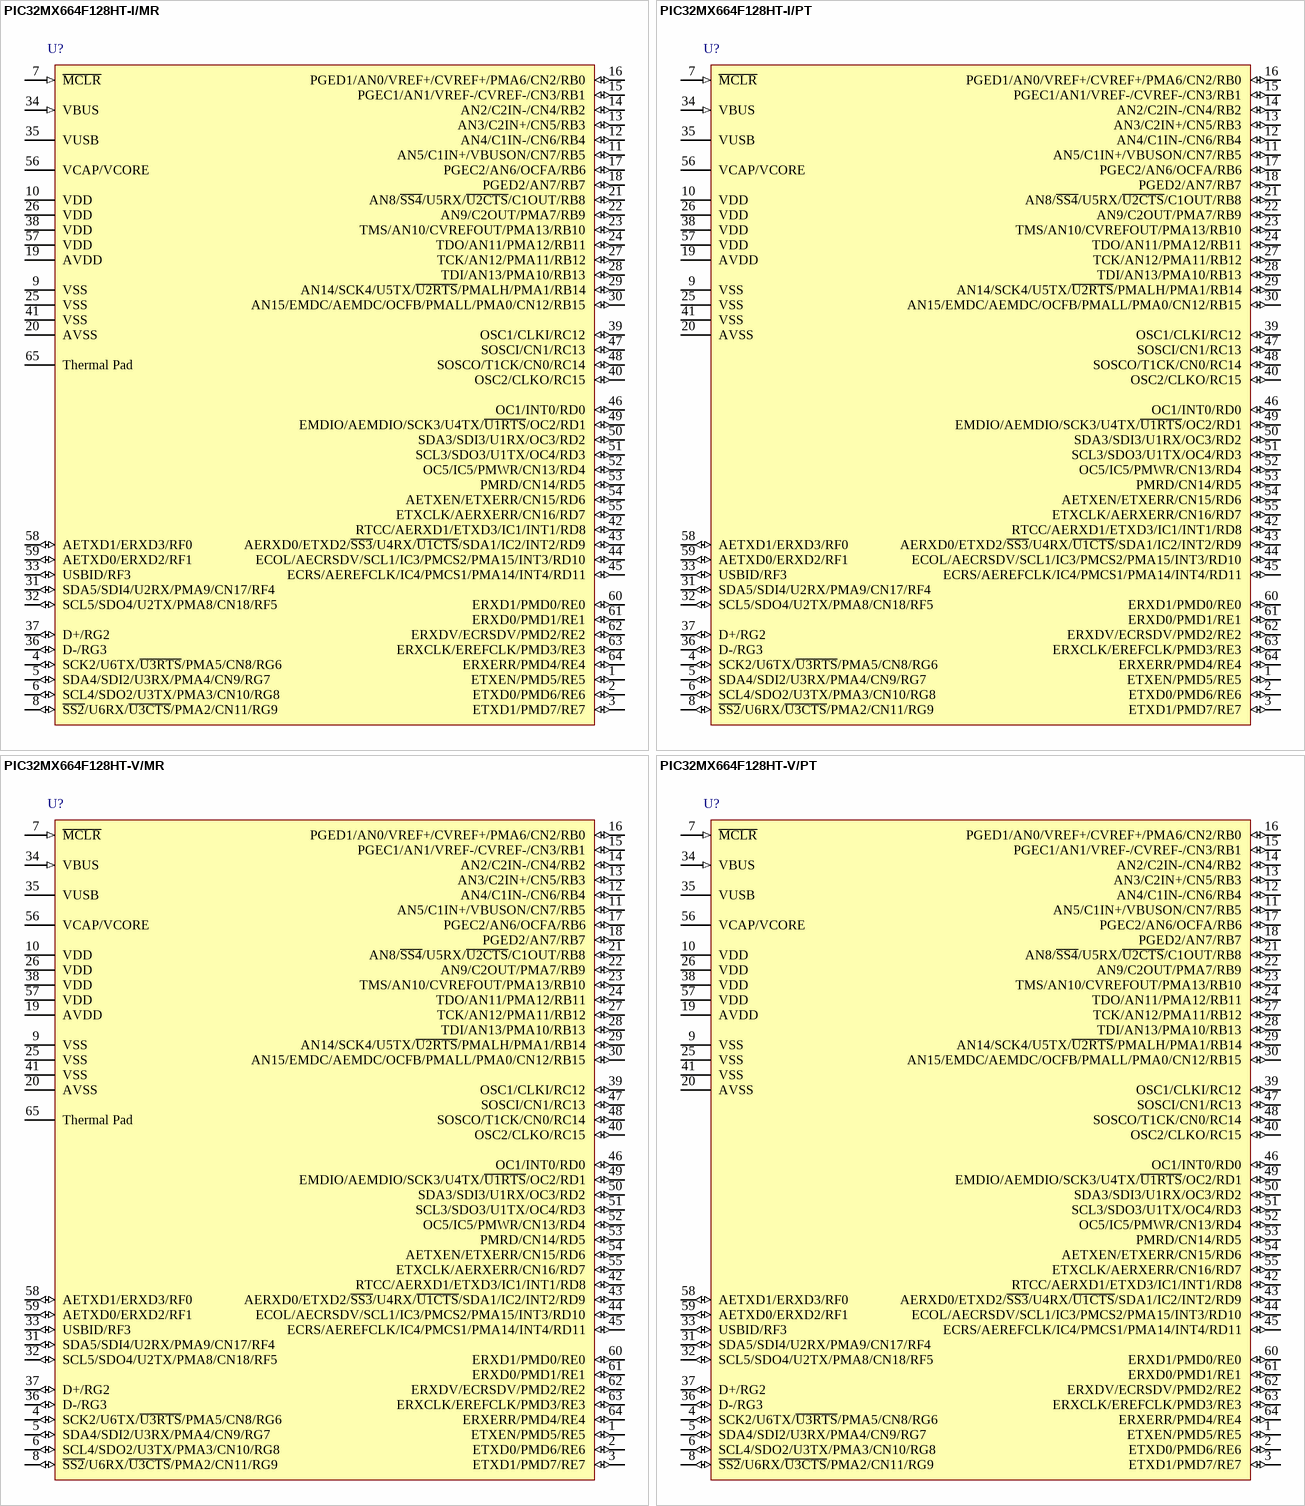
[diagram p130: symbols PIC32MX664F128HT-I/MR to PIC32MX664F128HT-V/PT]

## PIC32MX664F128HT-I/MR
designator U?
High Performance 80 MHz MIPS-Based 32-Bit Flash Microcontroller with USB and Ethernet, 128KB Program Memory, 64-pin QFN, Industrial Temperature, Tape and Reel; Manufacturer: Microchip; PartNumber: PIC32MX664F128HT-I/MR; DatasheetVersion: revG, May-2011; PackageVersion: revBB, Aug-2009; PackageReference: QFN-MR64; PackageDescription: 64-Lead Plastic Quad Flat, No Lead Package (MR) - 9x9x0.9 mm Body [QFN]; Supplier 1: Digi-Key; Supplier Part Number 1: PIC32MX664F128HT-I/MR-ND; Mounting Technology: Surface Mount; ComponentLink1Description: Manufacturer URL; ComponentLink1URL: http://www.microchip.com/; ComponentLink2Description: Datasheet; ComponentLink2URL: http://ww1.microchip.com/downloads/en/DeviceDoc/61156G.pdf; ComponentLink3Description: Package Specification; ComponentLink3URL: http://ww1.microchip.com/downloads/en/PackagingSpec/en012702.pdf
footprint QFN-MR64_N (QFN, 64-Leads, Body 9x9mm, Pitch 0.5mm, Thermal Pad 7.5x7.5mm, IPC Medium Density)
footprint QFN-MR64_L (QFN, 64-Leads, Body 9x9mm, Pitch 0.5mm, Thermal Pad 7.5x7.5mm, IPC High Density)
footprint QFN-MR64_M (QFN, 64-Leads, Body 9x9mm, Pitch 0.5mm, Thermal Pad 7.5x7.5mm, IPC Low Density)
pins: 1 ETXEN/PMD5/RE5 (io), 2 ETXD0/PMD6/RE6 (io), 3 ETXD1/PMD7/RE7 (io), 4 SCK2/U6TX/~{U3RTS}/PMA5/CN8/RG6 (io), 5 SDA4/SDI2/U3RX/PMA4/CN9/RG7 (io), 6 SCL4/SDO2/U3TX/PMA3/CN10/RG8 (io), 7 ~{MCLR} (in), 8 ~{SS2}/U6RX/~{U3CTS}/PMA2/CN11/RG9 (io), 9 VSS (power), 10 VDD (power), 11 AN5/C1IN+/VBUSON/CN7/RB5 (io), 12 AN4/C1IN-/CN6/RB4 (io), 13 AN3/C2IN+/CN5/RB3 (io), 14 AN2/C2IN-/CN4/RB2 (io), 15 PGEC1/AN1/VREF-/CVREF-/CN3/RB1 (io), 16 PGED1/AN0/VREF+/CVREF+/PMA6/CN2/RB0 (io), 17 PGEC2/AN6/OCFA/RB6 (io), 18 PGED2/AN7/RB7 (io), 19 AVDD (power), 20 AVSS (power), 21 AN8/~{SS4}/U5RX/~{U2CTS}/C1OUT/RB8 (io), 22 AN9/C2OUT/PMA7/RB9 (io), 23 TMS/AN10/CVREFOUT/PMA13/RB10 (io), 24 TDO/AN11/PMA12/RB11 (io), 25 VSS (power), 26 VDD (power), 27 TCK/AN12/PMA11/RB12 (io), 28 TDI/AN13/PMA10/RB13 (io), 29 AN14/SCK4/U5TX/~{U2RTS}/PMALH/PMA1/RB14 (io), 30 AN15/EMDC/AEMDC/OCFB/PMALL/PMA0/CN12/RB15 (io), 31 SDA5/SDI4/U2RX/PMA9/CN17/RF4 (io), 32 SCL5/SDO4/U2TX/PMA8/CN18/RF5 (io), 33 USBID/RF3 (io), 34 VBUS (in), 35 VUSB (power), 36 D-/RG3 (io), 37 D+/RG2 (io), 38 VDD (power), 39 OSC1/CLKI/RC12 (io), 40 OSC2/CLKO/RC15 (io), 41 VSS (power), 42 RTCC/AERXD1/ETXD3/IC1/INT1/RD8 (io), 43 AERXD0/ETXD2/~{SS3}/U4RX/~{U1CTS}/SDA1/IC2/INT2/RD9 (io), 44 ECOL/AECRSDV/SCL1/IC3/PMCS2/PMA15/INT3/RD10 (io), 45 ECRS/AEREFCLK/IC4/PMCS1/PMA14/INT4/RD11 (io), 46 OC1/INT0/RD0 (io), 47 SOSCI/CN1/RC13 (io), 48 SOSCO/T1CK/CN0/RC14 (io), 49 EMDIO/AEMDIO/SCK3/U4TX/~{U1RTS}/OC2/RD1 (io), 50 SDA3/SDI3/U1RX/OC3/RD2 (io), 51 SCL3/SDO3/U1TX/OC4/RD3 (io), 52 OC5/IC5/PMWR/CN13/RD4 (io), 53 PMRD/CN14/RD5 (io), 54 AETXEN/ETXERR/CN15/RD6 (io), 55 ETXCLK/AERXERR/CN16/RD7 (io), 56 VCAP/VCORE (power), 57 VDD (power), 58 AETXD1/ERXD3/RF0 (io), 59 AETXD0/ERXD2/RF1 (io), 60 ERXD1/PMD0/RE0 (io), 61 ERXD0/PMD1/RE1 (io), 62 ERXDV/ECRSDV/PMD2/RE2 (io), 63 ERXCLK/EREFCLK/PMD3/RE3 (io), 64 ERXERR/PMD4/RE4 (io), 65 Thermal Pad

## PIC32MX664F128HT-I/PT
designator U?
High Performance 80 MHz MIPS-Based 32-Bit Flash Microcontroller with USB and Ethernet, 128KB Program Memory, 64-pin TQFP, Industrial Temperature, Tape and Reel; Manufacturer: Microchip; PartNumber: PIC32MX664F128HT-I/PT; DatasheetVersion: revG, May-2011; PackageVersion: revBB, Aug-2009; PackageReference: TQFP-PT64; PackageDescription: 64-Lead Thin Plastic Quad Flat Pack (PT) - 10x10x1mm Body, 2.00mm [TQFP]; Supplier 1: Digi-Key; Supplier Part Number 1: PIC32MX664F128HT-I/PT-ND; Mounting Technology: Surface Mount; Code_JEDEC: MS-026; ComponentLink1Description: Manufacturer URL; ComponentLink1URL: http://www.microchip.com/; ComponentLink2Description: Datasheet; ComponentLink2URL: http://ww1.microchip.com/downloads/en/DeviceDoc/61156G.pdf; ComponentLink3Description: Package Specification; ComponentLink3URL: http://ww1.microchip.com/downloads/en/PackagingSpec/en012702.pdf
footprint TQFP-PT64_N (Thin QFP, 64-Leads, Body 10x10mm, Pitch 0.5mm, IPC Medium Density)
footprint TQFP-PT64_L (Thin QFP, 64-Leads, Body 10x10mm, Pitch 0.5mm, IPC High Density)
footprint TQFP-PT64_M (Thin QFP, 64-Leads, Body 10x10mm, Pitch 0.5mm, IPC Low Density)
pins: 1 ETXEN/PMD5/RE5 (io), 2 ETXD0/PMD6/RE6 (io), 3 ETXD1/PMD7/RE7 (io), 4 SCK2/U6TX/~{U3RTS}/PMA5/CN8/RG6 (io), 5 SDA4/SDI2/U3RX/PMA4/CN9/RG7 (io), 6 SCL4/SDO2/U3TX/PMA3/CN10/RG8 (io), 7 ~{MCLR} (in), 8 ~{SS2}/U6RX/~{U3CTS}/PMA2/CN11/RG9 (io), 9 VSS (power), 10 VDD (power), 11 AN5/C1IN+/VBUSON/CN7/RB5 (io), 12 AN4/C1IN-/CN6/RB4 (io), 13 AN3/C2IN+/CN5/RB3 (io), 14 AN2/C2IN-/CN4/RB2 (io), 15 PGEC1/AN1/VREF-/CVREF-/CN3/RB1 (io), 16 PGED1/AN0/VREF+/CVREF+/PMA6/CN2/RB0 (io), 17 PGEC2/AN6/OCFA/RB6 (io), 18 PGED2/AN7/RB7 (io), 19 AVDD (power), 20 AVSS (power), 21 AN8/~{SS4}/U5RX/~{U2CTS}/C1OUT/RB8 (io), 22 AN9/C2OUT/PMA7/RB9 (io), 23 TMS/AN10/CVREFOUT/PMA13/RB10 (io), 24 TDO/AN11/PMA12/RB11 (io), 25 VSS (power), 26 VDD (power), 27 TCK/AN12/PMA11/RB12 (io), 28 TDI/AN13/PMA10/RB13 (io), 29 AN14/SCK4/U5TX/~{U2RTS}/PMALH/PMA1/RB14 (io), 30 AN15/EMDC/AEMDC/OCFB/PMALL/PMA0/CN12/RB15 (io), 31 SDA5/SDI4/U2RX/PMA9/CN17/RF4 (io), 32 SCL5/SDO4/U2TX/PMA8/CN18/RF5 (io), 33 USBID/RF3 (io), 34 VBUS (in), 35 VUSB (power), 36 D-/RG3 (io), 37 D+/RG2 (io), 38 VDD (power), 39 OSC1/CLKI/RC12 (io), 40 OSC2/CLKO/RC15 (io), 41 VSS (power), 42 RTCC/AERXD1/ETXD3/IC1/INT1/RD8 (io), 43 AERXD0/ETXD2/~{SS3}/U4RX/~{U1CTS}/SDA1/IC2/INT2/RD9 (io), 44 ECOL/AECRSDV/SCL1/IC3/PMCS2/PMA15/INT3/RD10 (io), 45 ECRS/AEREFCLK/IC4/PMCS1/PMA14/INT4/RD11 (io), 46 OC1/INT0/RD0 (io), 47 SOSCI/CN1/RC13 (io), 48 SOSCO/T1CK/CN0/RC14 (io), 49 EMDIO/AEMDIO/SCK3/U4TX/~{U1RTS}/OC2/RD1 (io), 50 SDA3/SDI3/U1RX/OC3/RD2 (io), 51 SCL3/SDO3/U1TX/OC4/RD3 (io), 52 OC5/IC5/PMWR/CN13/RD4 (io), 53 PMRD/CN14/RD5 (io), 54 AETXEN/ETXERR/CN15/RD6 (io), 55 ETXCLK/AERXERR/CN16/RD7 (io), 56 VCAP/VCORE (power), 57 VDD (power), 58 AETXD1/ERXD3/RF0 (io), 59 AETXD0/ERXD2/RF1 (io), 60 ERXD1/PMD0/RE0 (io), 61 ERXD0/PMD1/RE1 (io), 62 ERXDV/ECRSDV/PMD2/RE2 (io), 63 ERXCLK/EREFCLK/PMD3/RE3 (io), 64 ERXERR/PMD4/RE4 (io)

## PIC32MX664F128HT-V/MR
designator U?
High Performance 80 MHz MIPS-Based 32-Bit Flash Microcontroller with USB and Ethernet, 128KB Program Memory, 64-pin QFN, V-Temperature, Tape and Reel; Manufacturer: Microchip; PartNumber: PIC32MX664F128HT-V/MR; DatasheetVersion: revG, May-2011; PackageVersion: revBB, Aug-2009; PackageReference: QFN-MR64; PackageDescription: 64-Lead Plastic Quad Flat, No Lead Package (MR) - 9x9x0.9 mm Body [QFN]; Supplier 1: Digi-Key; Supplier Part Number 1: PIC32MX664F128HT-V/MR-ND; Mounting Technology: Surface Mount; ComponentLink1Description: Manufacturer URL; ComponentLink1URL: http://www.microchip.com/; ComponentLink2Description: Datasheet; ComponentLink2URL: http://ww1.microchip.com/downloads/en/DeviceDoc/61156G.pdf; ComponentLink3Description: Package Specification; ComponentLink3URL: http://ww1.microchip.com/downloads/en/PackagingSpec/en012702.pdf
footprint QFN-MR64_N (QFN, 64-Leads, Body 9x9mm, Pitch 0.5mm, Thermal Pad 7.5x7.5mm, IPC Medium Density)
footprint QFN-MR64_L (QFN, 64-Leads, Body 9x9mm, Pitch 0.5mm, Thermal Pad 7.5x7.5mm, IPC High Density)
footprint QFN-MR64_M (QFN, 64-Leads, Body 9x9mm, Pitch 0.5mm, Thermal Pad 7.5x7.5mm, IPC Low Density)
pins: 1 ETXEN/PMD5/RE5 (io), 2 ETXD0/PMD6/RE6 (io), 3 ETXD1/PMD7/RE7 (io), 4 SCK2/U6TX/~{U3RTS}/PMA5/CN8/RG6 (io), 5 SDA4/SDI2/U3RX/PMA4/CN9/RG7 (io), 6 SCL4/SDO2/U3TX/PMA3/CN10/RG8 (io), 7 ~{MCLR} (in), 8 ~{SS2}/U6RX/~{U3CTS}/PMA2/CN11/RG9 (io), 9 VSS (power), 10 VDD (power), 11 AN5/C1IN+/VBUSON/CN7/RB5 (io), 12 AN4/C1IN-/CN6/RB4 (io), 13 AN3/C2IN+/CN5/RB3 (io), 14 AN2/C2IN-/CN4/RB2 (io), 15 PGEC1/AN1/VREF-/CVREF-/CN3/RB1 (io), 16 PGED1/AN0/VREF+/CVREF+/PMA6/CN2/RB0 (io), 17 PGEC2/AN6/OCFA/RB6 (io), 18 PGED2/AN7/RB7 (io), 19 AVDD (power), 20 AVSS (power), 21 AN8/~{SS4}/U5RX/~{U2CTS}/C1OUT/RB8 (io), 22 AN9/C2OUT/PMA7/RB9 (io), 23 TMS/AN10/CVREFOUT/PMA13/RB10 (io), 24 TDO/AN11/PMA12/RB11 (io), 25 VSS (power), 26 VDD (power), 27 TCK/AN12/PMA11/RB12 (io), 28 TDI/AN13/PMA10/RB13 (io), 29 AN14/SCK4/U5TX/~{U2RTS}/PMALH/PMA1/RB14 (io), 30 AN15/EMDC/AEMDC/OCFB/PMALL/PMA0/CN12/RB15 (io), 31 SDA5/SDI4/U2RX/PMA9/CN17/RF4 (io), 32 SCL5/SDO4/U2TX/PMA8/CN18/RF5 (io), 33 USBID/RF3 (io), 34 VBUS (in), 35 VUSB (power), 36 D-/RG3 (io), 37 D+/RG2 (io), 38 VDD (power), 39 OSC1/CLKI/RC12 (io), 40 OSC2/CLKO/RC15 (io), 41 VSS (power), 42 RTCC/AERXD1/ETXD3/IC1/INT1/RD8 (io), 43 AERXD0/ETXD2/~{SS3}/U4RX/~{U1CTS}/SDA1/IC2/INT2/RD9 (io), 44 ECOL/AECRSDV/SCL1/IC3/PMCS2/PMA15/INT3/RD10 (io), 45 ECRS/AEREFCLK/IC4/PMCS1/PMA14/INT4/RD11 (io), 46 OC1/INT0/RD0 (io), 47 SOSCI/CN1/RC13 (io), 48 SOSCO/T1CK/CN0/RC14 (io), 49 EMDIO/AEMDIO/SCK3/U4TX/~{U1RTS}/OC2/RD1 (io), 50 SDA3/SDI3/U1RX/OC3/RD2 (io), 51 SCL3/SDO3/U1TX/OC4/RD3 (io), 52 OC5/IC5/PMWR/CN13/RD4 (io), 53 PMRD/CN14/RD5 (io), 54 AETXEN/ETXERR/CN15/RD6 (io), 55 ETXCLK/AERXERR/CN16/RD7 (io), 56 VCAP/VCORE (power), 57 VDD (power), 58 AETXD1/ERXD3/RF0 (io), 59 AETXD0/ERXD2/RF1 (io), 60 ERXD1/PMD0/RE0 (io), 61 ERXD0/PMD1/RE1 (io), 62 ERXDV/ECRSDV/PMD2/RE2 (io), 63 ERXCLK/EREFCLK/PMD3/RE3 (io), 64 ERXERR/PMD4/RE4 (io), 65 Thermal Pad

## PIC32MX664F128HT-V/PT
designator U?
High Performance 80 MHz MIPS-Based 32-Bit Flash Microcontroller with USB and Ethernet, 128KB Program Memory, 64-pin TQFP, V-Temperature, Tape and Reel; Manufacturer: Microchip; PartNumber: PIC32MX664F128HT-V/PT; DatasheetVersion: revG, May-2011; PackageVersion: revBB, Aug-2009; PackageReference: TQFP-PT64; PackageDescription: 64-Lead Thin Plastic Quad Flat Pack (PT) - 10x10x1mm Body, 2.00mm [TQFP]; Supplier 1: Digi-Key; Supplier Part Number 1: PIC32MX664F128HT-V/PT-ND; Mounting Technology: Surface Mount; Code_JEDEC: MS-026; ComponentLink1Description: Manufacturer URL; ComponentLink1URL: http://www.microchip.com/; ComponentLink2Description: Datasheet; ComponentLink2URL: http://ww1.microchip.com/downloads/en/DeviceDoc/61156G.pdf; ComponentLink3Description: Package Specification; ComponentLink3URL: http://ww1.microchip.com/downloads/en/PackagingSpec/en012702.pdf
footprint TQFP-PT64_N (Thin QFP, 64-Leads, Body 10x10mm, Pitch 0.5mm, IPC Medium Density)
footprint TQFP-PT64_L (Thin QFP, 64-Leads, Body 10x10mm, Pitch 0.5mm, IPC High Density)
footprint TQFP-PT64_M (Thin QFP, 64-Leads, Body 10x10mm, Pitch 0.5mm, IPC Low Density)
pins: 1 ETXEN/PMD5/RE5 (io), 2 ETXD0/PMD6/RE6 (io), 3 ETXD1/PMD7/RE7 (io), 4 SCK2/U6TX/~{U3RTS}/PMA5/CN8/RG6 (io), 5 SDA4/SDI2/U3RX/PMA4/CN9/RG7 (io), 6 SCL4/SDO2/U3TX/PMA3/CN10/RG8 (io), 7 ~{MCLR} (in), 8 ~{SS2}/U6RX/~{U3CTS}/PMA2/CN11/RG9 (io), 9 VSS (power), 10 VDD (power), 11 AN5/C1IN+/VBUSON/CN7/RB5 (io), 12 AN4/C1IN-/CN6/RB4 (io), 13 AN3/C2IN+/CN5/RB3 (io), 14 AN2/C2IN-/CN4/RB2 (io), 15 PGEC1/AN1/VREF-/CVREF-/CN3/RB1 (io), 16 PGED1/AN0/VREF+/CVREF+/PMA6/CN2/RB0 (io), 17 PGEC2/AN6/OCFA/RB6 (io), 18 PGED2/AN7/RB7 (io), 19 AVDD (power), 20 AVSS (power), 21 AN8/~{SS4}/U5RX/~{U2CTS}/C1OUT/RB8 (io), 22 AN9/C2OUT/PMA7/RB9 (io), 23 TMS/AN10/CVREFOUT/PMA13/RB10 (io), 24 TDO/AN11/PMA12/RB11 (io), 25 VSS (power), 26 VDD (power), 27 TCK/AN12/PMA11/RB12 (io), 28 TDI/AN13/PMA10/RB13 (io), 29 AN14/SCK4/U5TX/~{U2RTS}/PMALH/PMA1/RB14 (io), 30 AN15/EMDC/AEMDC/OCFB/PMALL/PMA0/CN12/RB15 (io), 31 SDA5/SDI4/U2RX/PMA9/CN17/RF4 (io), 32 SCL5/SDO4/U2TX/PMA8/CN18/RF5 (io), 33 USBID/RF3 (io), 34 VBUS (in), 35 VUSB (power), 36 D-/RG3 (io), 37 D+/RG2 (io), 38 VDD (power), 39 OSC1/CLKI/RC12 (io), 40 OSC2/CLKO/RC15 (io), 41 VSS (power), 42 RTCC/AERXD1/ETXD3/IC1/INT1/RD8 (io), 43 AERXD0/ETXD2/~{SS3}/U4RX/~{U1CTS}/SDA1/IC2/INT2/RD9 (io), 44 ECOL/AECRSDV/SCL1/IC3/PMCS2/PMA15/INT3/RD10 (io), 45 ECRS/AEREFCLK/IC4/PMCS1/PMA14/INT4/RD11 (io), 46 OC1/INT0/RD0 (io), 47 SOSCI/CN1/RC13 (io), 48 SOSCO/T1CK/CN0/RC14 (io), 49 EMDIO/AEMDIO/SCK3/U4TX/~{U1RTS}/OC2/RD1 (io), 50 SDA3/SDI3/U1RX/OC3/RD2 (io), 51 SCL3/SDO3/U1TX/OC4/RD3 (io), 52 OC5/IC5/PMWR/CN13/RD4 (io), 53 PMRD/CN14/RD5 (io), 54 AETXEN/ETXERR/CN15/RD6 (io), 55 ETXCLK/AERXERR/CN16/RD7 (io), 56 VCAP/VCORE (power), 57 VDD (power), 58 AETXD1/ERXD3/RF0 (io), 59 AETXD0/ERXD2/RF1 (io), 60 ERXD1/PMD0/RE0 (io), 61 ERXD0/PMD1/RE1 (io), 62 ERXDV/ECRSDV/PMD2/RE2 (io), 63 ERXCLK/EREFCLK/PMD3/RE3 (io), 64 ERXERR/PMD4/RE4 (io)

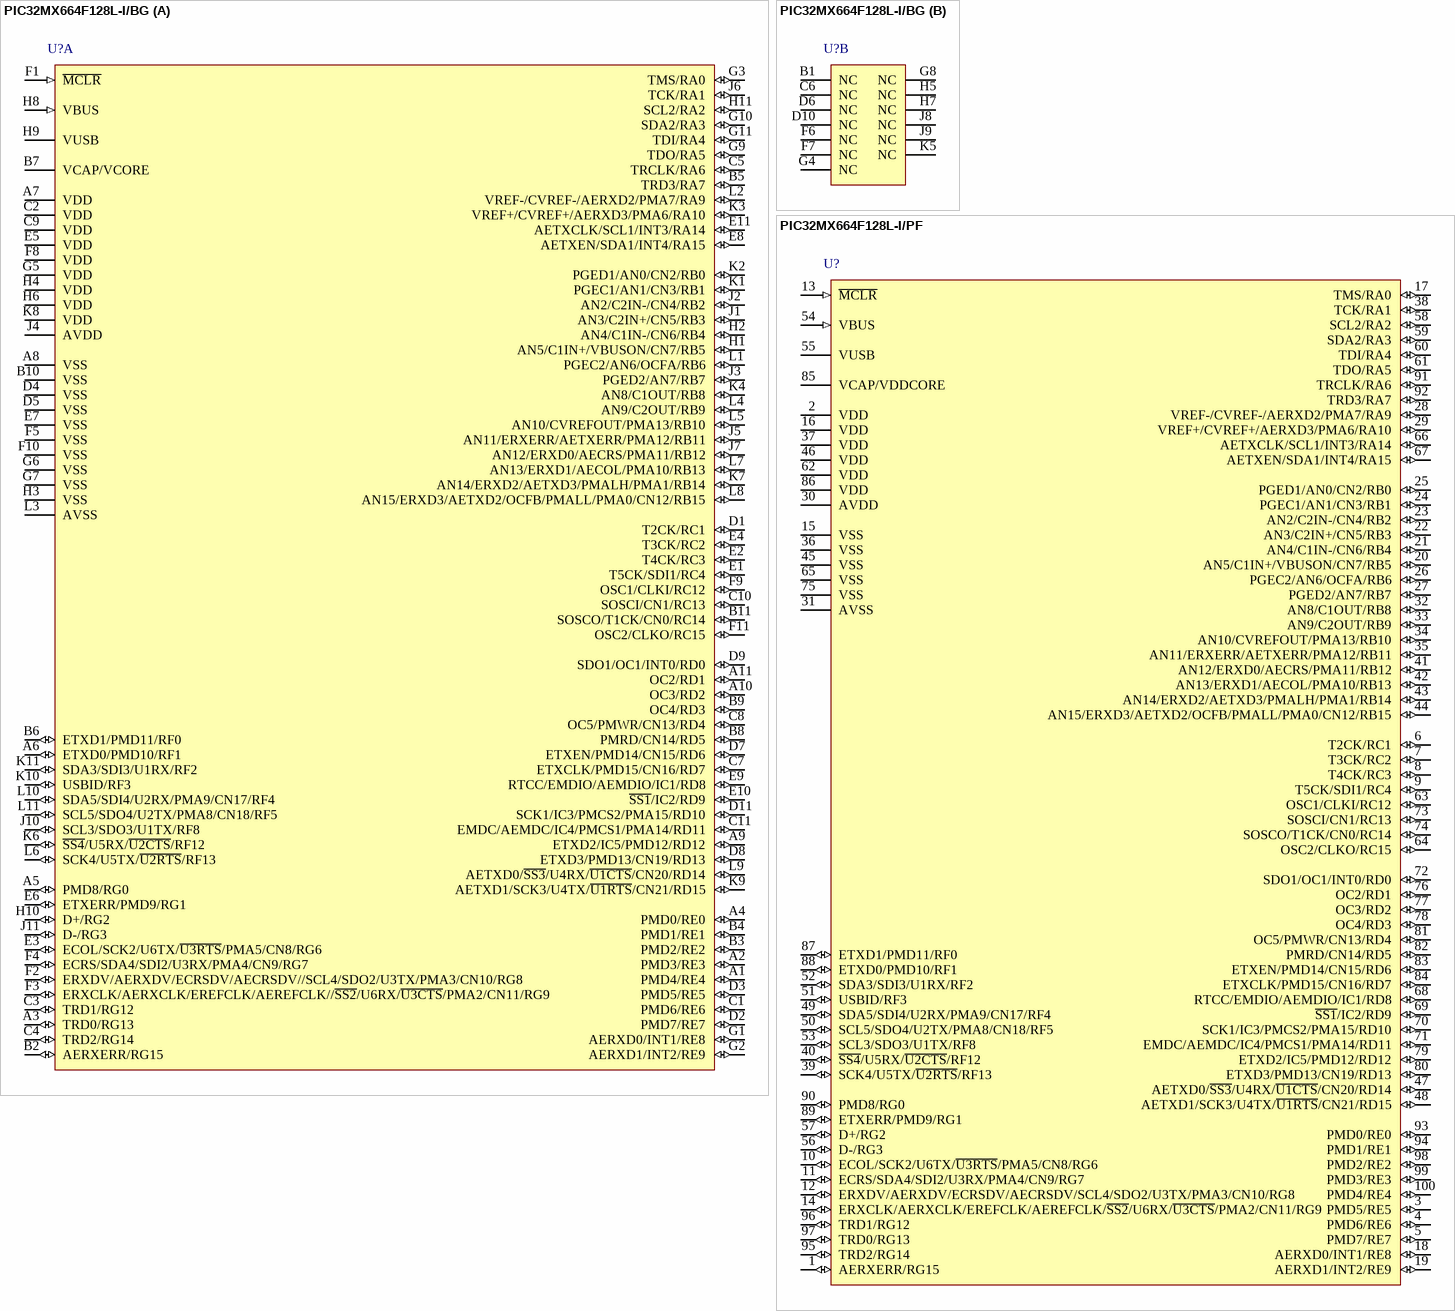
[diagram p131: symbols PIC32MX664F128L-I/BG to PIC32MX664F128L-I/PF]

## PIC32MX664F128L-I/BG
designator U?
High Performance 80 MHz MIPS-Based 32-Bit Flash Microcontroller with USB and Ethernet, 128KB Program Memory, 121-pin XBGA, Industrial Temperature; Manufacturer: Microchip; PartNumber: PIC32MX664F128L-I/BG; DatasheetVersion: revG, May-2011; PackageVersion: revBB, Aug-2009; PackageReference: XBGA-BG121; PackageDescription: 121-Lead Plastic Thin Profile Ball Grid Array (BG) - 10x10x1.10 mm Body [XBGA]; Supplier 1: Digi-Key; Supplier Part Number 1: PIC32MX664F128L-I/BG-ND; Mounting Technology: Surface Mount; ComponentLink1Description: Manufacturer URL; ComponentLink1URL: http://www.microchip.com/; ComponentLink2Description: Datasheet; ComponentLink2URL: http://ww1.microchip.com/downloads/en/DeviceDoc/61156G.pdf; ComponentLink3Description: Package Specification; ComponentLink3URL: http://ww1.microchip.com/downloads/en/PackagingSpec/en012702.pdf
footprint XBGA-BG121 (BGA, 121-Leads, Body 10x10mm, Pitch 0.8mm)
part A pins: A1 PMD4/RE4 (io), A2 PMD3/RE3 (io), A3 TRD0/RG13 (io), A4 PMD0/RE0 (io), A5 PMD8/RG0 (io), A6 ETXD0/PMD10/RF1 (io), A7 VDD (power), A8 VSS (power), A9 ETXD2/IC5/PMD12/RD12 (io), A10 OC3/RD2 (io), A11 OC2/RD1 (io), B2 AERXERR/RG15 (io), B3 PMD2/RE2 (io), B4 PMD1/RE1 (io), B5 TRD3/RA7 (io), B6 ETXD1/PMD11/RF0 (io), B7 VCAP/VCORE (power), B8 PMRD/CN14/RD5 (io), B9 OC4/RD3 (io), B10 VSS (power), B11 SOSCO/T1CK/CN0/RC14 (io), C1 PMD6/RE6 (io), C2 VDD (power), C3 TRD1/RG12 (io), C4 TRD2/RG14 (io), C5 TRCLK/RA6 (io), C7 ETXCLK/PMD15/CN16/RD7 (io), C8 OC5/PMWR/CN13/RD4 (io), C9 VDD (power), C10 SOSCI/CN1/RC13 (io), C11 EMDC/AEMDC/IC4/PMCS1/PMA14/RD11 (io), D1 T2CK/RC1 (io), D2 PMD7/RE7 (io), D3 PMD5/RE5 (io), D4 VSS (power), D5 VSS (power), D7 ETXEN/PMD14/CN15/RD6 (io), D8 ETXD3/PMD13/CN19/RD13 (io), D9 SDO1/OC1/INT0/RD0 (io), D11 SCK1/IC3/PMCS2/PMA15/RD10 (io), E1 T5CK/SDI1/RC4 (io), E2 T4CK/RC3 (io), E3 ECOL/SCK2/U6TX/~{U3RTS}/PMA5/CN8/RG6 (io), E4 T3CK/RC2 (io), E5 VDD (power), E6 ETXERR/PMD9/RG1 (io), E7 VSS (power), E8 AETXEN/SDA1/INT4/RA15 (io), E9 RTCC/EMDIO/AEMDIO/IC1/RD8 (io), E10 ~{SS1}/IC2/RD9 (io), E11 AETXCLK/SCL1/INT3/RA14 (io), F1 ~{MCLR} (in), F2 ERXDV/AERXDV/ECRSDV/AECRSDV//SCL4/SDO2/U3TX/PMA3/CN10/RG8 (io), F3 ERXCLK/AERXCLK/EREFCLK/AEREFCLK//~{SS2}/U6RX/~{U3CTS}/PMA2/CN11/RG9 (io), F4 ECRS/SDA4/SDI2/U3RX/PMA4/CN9/RG7 (io), F5 VSS (power), F8 VDD (power), F9 OSC1/CLKI/RC12 (io), F10 VSS (power), F11 OSC2/CLKO/RC15 (io), G1 AERXD0/INT1/RE8 (io), G2 AERXD1/INT2/RE9 (io), G3 TMS/RA0 (io), G5 VDD (power), G6 VSS (power), G7 VSS (power), G9 TDO/RA5 (io), G10 SDA2/RA3 (io), G11 TDI/RA4 (io), H1 AN5/C1IN+/VBUSON/CN7/RB5 (io), H2 AN4/C1IN-/CN6/RB4 (io), H3 VSS (power), H4 VDD (power), H6 VDD (power), H8 VBUS (in), H9 VUSB (power), H10 D+/RG2 (io), H11 SCL2/RA2 (io), J1 AN3/C2IN+/CN5/RB3 (io), J2 AN2/C2IN-/CN4/RB2 (io), J3 PGED2/AN7/RB7 (io), J4 AVDD (power), J5 AN11/ERXERR/AETXERR/PMA12/RB11 (io), J6 TCK/RA1 (io), J7 AN12/ERXD0/AECRS/PMA11/RB12 (io), J10 SCL3/SDO3/U1TX/RF8 (io), J11 D-/RG3 (io), K1 PGEC1/AN1/CN3/RB1 (io), K2 PGED1/AN0/CN2/RB0 (io), K3 VREF+/CVREF+/AERXD3/PMA6/RA10 (io), K4 AN8/C1OUT/RB8 (io), K6 ~{SS4}/U5RX/~{U2CTS}/RF12 (io), K7 AN14/ERXD2/AETXD3/PMALH/PMA1/RB14 (io), K8 VDD (power), K9 AETXD1/SCK3/U4TX/~{U1RTS}/CN21/RD15 (io), K10 USBID/RF3 (io), K11 SDA3/SDI3/U1RX/RF2 (io), L1 PGEC2/AN6/OCFA/RB6 (io), L2 VREF-/CVREF-/AERXD2/PMA7/RA9 (io), L3 AVSS (power), L4 AN9/C2OUT/RB9 (io), L5 AN10/CVREFOUT/PMA13/RB10 (io), L6 SCK4/U5TX/~{U2RTS}/RF13 (io), L7 AN13/ERXD1/AECOL/PMA10/RB13 (io), L8 AN15/ERXD3/AETXD2/OCFB/PMALL/PMA0/CN12/RB15 (io), L9 AETXD0/~{SS3}/U4RX/~{U1CTS}/CN20/RD14 (io), L10 SDA5/SDI4/U2RX/PMA9/CN17/RF4 (io), L11 SCL5/SDO4/U2TX/PMA8/CN18/RF5 (io)
part B pins: B1 NC, C6 NC, D6 NC, D10 NC, F6 NC, F7 NC, G4 NC, G8 NC, H5 NC, H7 NC, J8 NC, J9 NC, K5 NC

## PIC32MX664F128L-I/PF
designator U?
High Performance 80 MHz MIPS-Based 32-Bit Flash Microcontroller with USB and Ethernet, 128KB Program Memory, 100-pin TQFP, Industrial Temperature; Manufacturer: Microchip; PartNumber: PIC32MX664F128L-I/PF; DatasheetVersion: revG, May-2011; PackageVersion: revBB, Aug-2009; PackageReference: TQFP-PF100; PackageDescription: 100-Lead Thin Plastic Quad Flat Pack (PF) - 14x14x1mm Body, 2.00mm [TQFP]; Supplier 1: Digi-Key; Supplier Part Number 1: PIC32MX664F128L-I/PF-ND; Mounting Technology: Surface Mount; ComponentLink1Description: Manufacturer URL; ComponentLink1URL: http://www.microchip.com/; ComponentLink2Description: Datasheet; ComponentLink2URL: http://ww1.microchip.com/downloads/en/DeviceDoc/61156G.pdf; ComponentLink3Description: Package Specification; ComponentLink3URL: http://ww1.microchip.com/downloads/en/PackagingSpec/en012702.pdf
footprint TQFP-PF100_N (Thin QFP, 100-Leads, Body 14x14mm, Pitch 0.5mm, IPC Medium Density)
footprint TQFP-PF100_L (Thin QFP, 100-Leads, Body 14x14mm, Pitch 0.5mm, IPC High Density)
footprint TQFP-PF100_M (Thin QFP, 100-Leads, Body 14x14mm, Pitch 0.5mm, IPC Low Density)
pins: 1 AERXERR/RG15 (io), 2 VDD (power), 3 PMD5/RE5 (io), 4 PMD6/RE6 (io), 5 PMD7/RE7 (io), 6 T2CK/RC1 (io), 7 T3CK/RC2 (io), 8 T4CK/RC3 (io), 9 T5CK/SDI1/RC4 (io), 10 ECOL/SCK2/U6TX/~{U3RTS}/PMA5/CN8/RG6 (io), 11 ECRS/SDA4/SDI2/U3RX/PMA4/CN9/RG7 (io), 12 ERXDV/AERXDV/ECRSDV/AECRSDV/SCL4/SDO2/U3TX/PMA3/CN10/RG8 (io), 13 ~{MCLR} (in), 14 ERXCLK/AERXCLK/EREFCLK/AEREFCLK/~{SS2}/U6RX/~{U3CTS}/PMA2/CN11/RG9 (io), 15 VSS (power), 16 VDD (power), 17 TMS/RA0 (io), 18 AERXD0/INT1/RE8 (io), 19 AERXD1/INT2/RE9 (io), 20 AN5/C1IN+/VBUSON/CN7/RB5 (io), 21 AN4/C1IN-/CN6/RB4 (io), 22 AN3/C2IN+/CN5/RB3 (io), 23 AN2/C2IN-/CN4/RB2 (io), 24 PGEC1/AN1/CN3/RB1 (io), 25 PGED1/AN0/CN2/RB0 (io), 26 PGEC2/AN6/OCFA/RB6 (io), 27 PGED2/AN7/RB7 (io), 28 VREF-/CVREF-/AERXD2/PMA7/RA9 (io), 29 VREF+/CVREF+/AERXD3/PMA6/RA10 (io), 30 AVDD (power), 31 AVSS (power), 32 AN8/C1OUT/RB8 (io), 33 AN9/C2OUT/RB9 (io), 34 AN10/CVREFOUT/PMA13/RB10 (io), 35 AN11/ERXERR/AETXERR/PMA12/RB11 (io), 36 VSS (power), 37 VDD (power), 38 TCK/RA1 (io), 39 SCK4/U5TX/~{U2RTS}/RF13 (io), 40 ~{SS4}/U5RX/~{U2CTS}/RF12 (io), 41 AN12/ERXD0/AECRS/PMA11/RB12 (io), 42 AN13/ERXD1/AECOL/PMA10/RB13 (io), 43 AN14/ERXD2/AETXD3/PMALH/PMA1/RB14 (io), 44 AN15/ERXD3/AETXD2/OCFB/PMALL/PMA0/CN12/RB15 (io), 45 VSS (power), 46 VDD (power), 47 AETXD0/~{SS3}/U4RX/~{U1CTS}/CN20/RD14 (io), 48 AETXD1/SCK3/U4TX/~{U1RTS}/CN21/RD15 (io), 49 SDA5/SDI4/U2RX/PMA9/CN17/RF4 (io), 50 SCL5/SDO4/U2TX/PMA8/CN18/RF5 (io), 51 USBID/RF3 (io), 52 SDA3/SDI3/U1RX/RF2 (io), 53 SCL3/SDO3/U1TX/RF8 (io), 54 VBUS (in), 55 VUSB (power), 56 D-/RG3 (io), 57 D+/RG2 (io), 58 SCL2/RA2 (io), 59 SDA2/RA3 (io), 60 TDI/RA4 (io), 61 TDO/RA5 (io), 62 VDD (power), 63 OSC1/CLKI/RC12 (io), 64 OSC2/CLKO/RC15 (io), 65 VSS (power), 66 AETXCLK/SCL1/INT3/RA14 (io), 67 AETXEN/SDA1/INT4/RA15 (io), 68 RTCC/EMDIO/AEMDIO/IC1/RD8 (io), 69 ~{SS1}/IC2/RD9 (io), 70 SCK1/IC3/PMCS2/PMA15/RD10 (io), 71 EMDC/AEMDC/IC4/PMCS1/PMA14/RD11 (io), 72 SDO1/OC1/INT0/RD0 (io), 73 SOSCI/CN1/RC13 (io), 74 SOSCO/T1CK/CN0/RC14 (io), 75 VSS (power), 76 OC2/RD1 (io), 77 OC3/RD2 (io), 78 OC4/RD3 (io), 79 ETXD2/IC5/PMD12/RD12 (io), 80 ETXD3/PMD13/CN19/RD13 (io), 81 OC5/PMWR/CN13/RD4 (io), 82 PMRD/CN14/RD5 (io), 83 ETXEN/PMD14/CN15/RD6 (io), 84 ETXCLK/PMD15/CN16/RD7 (io), 85 VCAP/VDDCORE (power), 86 VDD (power), 87 ETXD1/PMD11/RF0 (io), 88 ETXD0/PMD10/RF1 (io), 89 ETXERR/PMD9/RG1 (io), 90 PMD8/RG0 (io), 91 TRCLK/RA6 (io), 92 TRD3/RA7 (io), 93 PMD0/RE0 (io), 94 PMD1/RE1 (io), 95 TRD2/RG14 (io), 96 TRD1/RG12 (io), 97 TRD0/RG13 (io), 98 PMD2/RE2 (io), 99 PMD3/RE3 (io), 100 PMD4/RE4 (io)

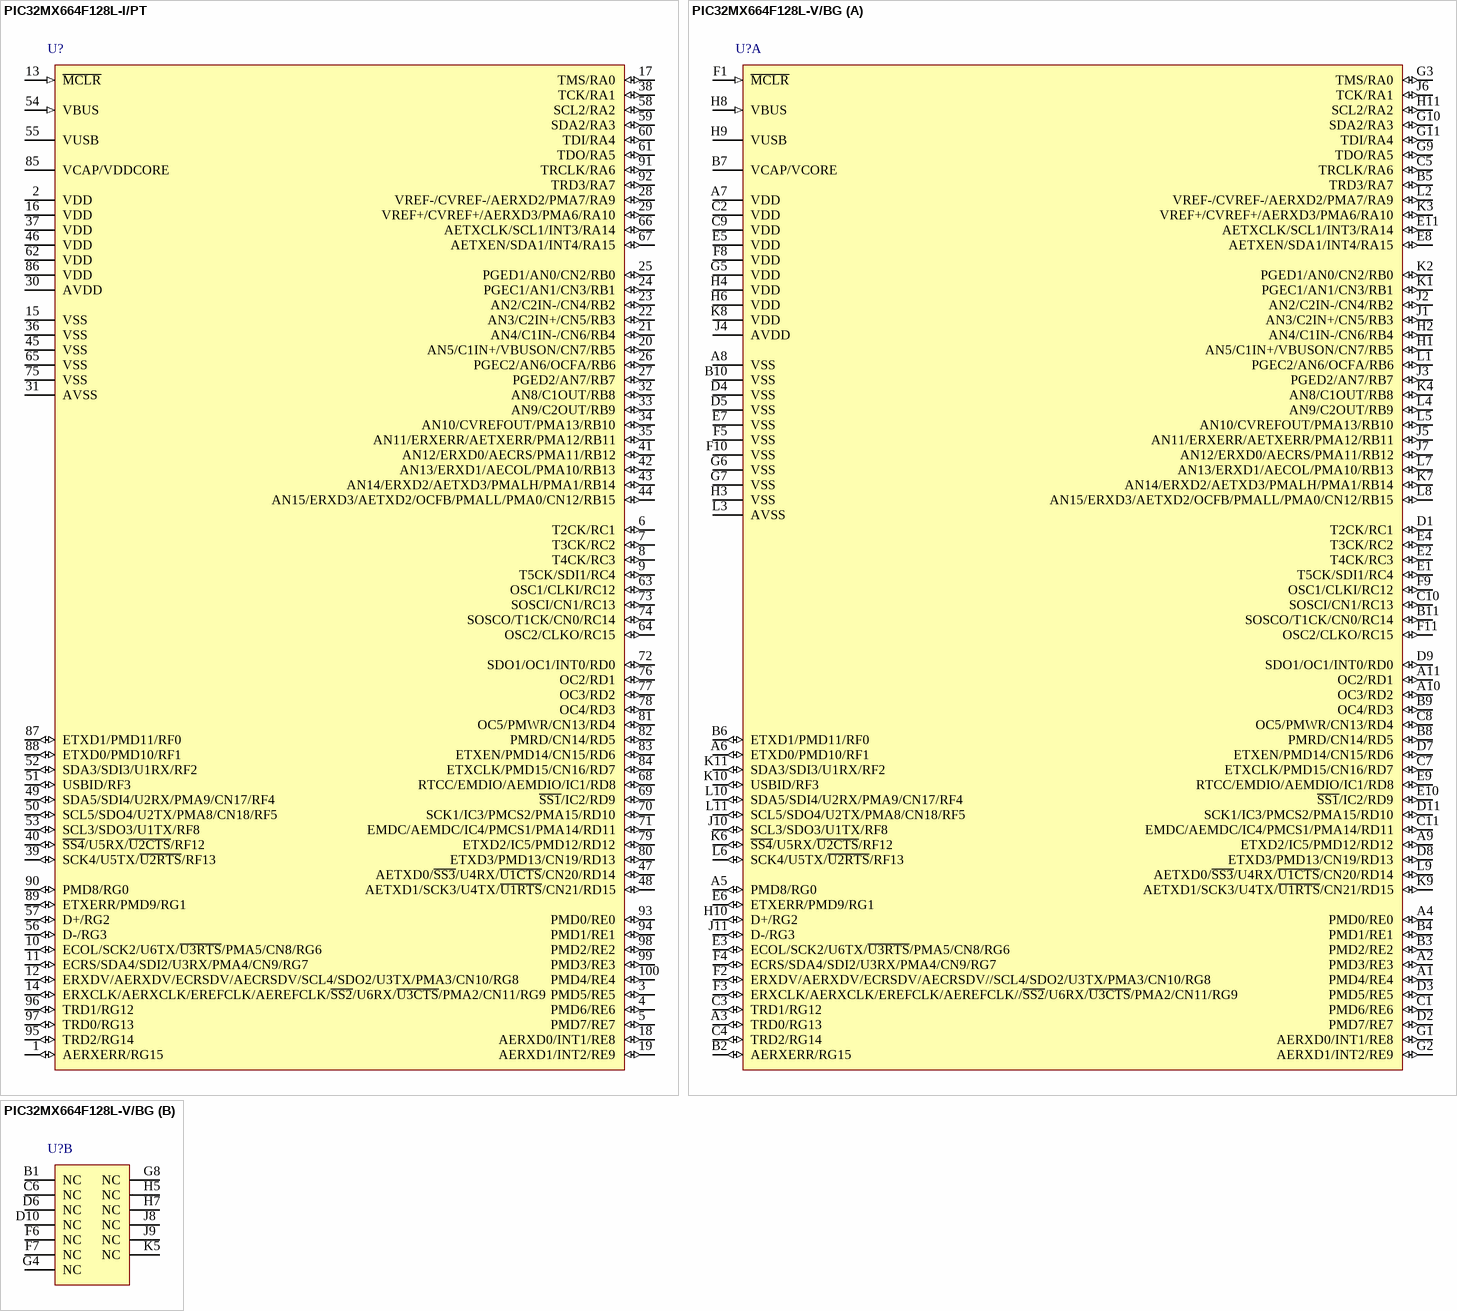
[diagram p132: symbols PIC32MX664F128L-I/PT to PIC32MX664F128L-V/BG]

## PIC32MX664F128L-I/PT
designator U?
High Performance 80 MHz MIPS-Based 32-Bit Flash Microcontroller with USB and Ethernet, 128KB Program Memory, 100-pin TQFP, Industrial Temperature; Manufacturer: Microchip; PartNumber: PIC32MX664F128L-I/PT; DatasheetVersion: revG, May-2011; PackageVersion: revBB, Aug-2009; PackageReference: TQFP-PT100; PackageDescription: 100-Lead Plastic Thin Quad Flatpack (PT) - 12x12x1mm Body, 2.00mm [TQFP]; Supplier 1: Digi-Key; Supplier Part Number 1: PIC32MX664F128L-I/PT-ND; Mounting Technology: Surface Mount; ComponentLink1Description: Manufacturer URL; ComponentLink1URL: http://www.microchip.com/; ComponentLink2Description: Datasheet; ComponentLink2URL: http://ww1.microchip.com/downloads/en/DeviceDoc/61156G.pdf; ComponentLink3Description: Package Specification; ComponentLink3URL: http://ww1.microchip.com/downloads/en/PackagingSpec/en012702.pdf
footprint TQFP-PT100_N (Thin QFP, 100-Leads, Body 12x12mm, Pitch 0.4mm, IPC Medium Density)
footprint TQFP-PT100_L (Thin QFP, 100-Leads, Body 12x12mm, Pitch 0.4mm, IPC High Density)
footprint TQFP-PT100_M (Thin QFP, 100-Leads, Body 12x12mm, Pitch 0.4mm, IPC Low Density)
pins: 1 AERXERR/RG15 (io), 2 VDD (power), 3 PMD5/RE5 (io), 4 PMD6/RE6 (io), 5 PMD7/RE7 (io), 6 T2CK/RC1 (io), 7 T3CK/RC2 (io), 8 T4CK/RC3 (io), 9 T5CK/SDI1/RC4 (io), 10 ECOL/SCK2/U6TX/~{U3RTS}/PMA5/CN8/RG6 (io), 11 ECRS/SDA4/SDI2/U3RX/PMA4/CN9/RG7 (io), 12 ERXDV/AERXDV/ECRSDV/AECRSDV/SCL4/SDO2/U3TX/PMA3/CN10/RG8 (io), 13 ~{MCLR} (in), 14 ERXCLK/AERXCLK/EREFCLK/AEREFCLK/~{SS2}/U6RX/~{U3CTS}/PMA2/CN11/RG9 (io), 15 VSS (power), 16 VDD (power), 17 TMS/RA0 (io), 18 AERXD0/INT1/RE8 (io), 19 AERXD1/INT2/RE9 (io), 20 AN5/C1IN+/VBUSON/CN7/RB5 (io), 21 AN4/C1IN-/CN6/RB4 (io), 22 AN3/C2IN+/CN5/RB3 (io), 23 AN2/C2IN-/CN4/RB2 (io), 24 PGEC1/AN1/CN3/RB1 (io), 25 PGED1/AN0/CN2/RB0 (io), 26 PGEC2/AN6/OCFA/RB6 (io), 27 PGED2/AN7/RB7 (io), 28 VREF-/CVREF-/AERXD2/PMA7/RA9 (io), 29 VREF+/CVREF+/AERXD3/PMA6/RA10 (io), 30 AVDD (power), 31 AVSS (power), 32 AN8/C1OUT/RB8 (io), 33 AN9/C2OUT/RB9 (io), 34 AN10/CVREFOUT/PMA13/RB10 (io), 35 AN11/ERXERR/AETXERR/PMA12/RB11 (io), 36 VSS (power), 37 VDD (power), 38 TCK/RA1 (io), 39 SCK4/U5TX/~{U2RTS}/RF13 (io), 40 ~{SS4}/U5RX/~{U2CTS}/RF12 (io), 41 AN12/ERXD0/AECRS/PMA11/RB12 (io), 42 AN13/ERXD1/AECOL/PMA10/RB13 (io), 43 AN14/ERXD2/AETXD3/PMALH/PMA1/RB14 (io), 44 AN15/ERXD3/AETXD2/OCFB/PMALL/PMA0/CN12/RB15 (io), 45 VSS (power), 46 VDD (power), 47 AETXD0/~{SS3}/U4RX/~{U1CTS}/CN20/RD14 (io), 48 AETXD1/SCK3/U4TX/~{U1RTS}/CN21/RD15 (io), 49 SDA5/SDI4/U2RX/PMA9/CN17/RF4 (io), 50 SCL5/SDO4/U2TX/PMA8/CN18/RF5 (io), 51 USBID/RF3 (io), 52 SDA3/SDI3/U1RX/RF2 (io), 53 SCL3/SDO3/U1TX/RF8 (io), 54 VBUS (in), 55 VUSB (power), 56 D-/RG3 (io), 57 D+/RG2 (io), 58 SCL2/RA2 (io), 59 SDA2/RA3 (io), 60 TDI/RA4 (io), 61 TDO/RA5 (io), 62 VDD (power), 63 OSC1/CLKI/RC12 (io), 64 OSC2/CLKO/RC15 (io), 65 VSS (power), 66 AETXCLK/SCL1/INT3/RA14 (io), 67 AETXEN/SDA1/INT4/RA15 (io), 68 RTCC/EMDIO/AEMDIO/IC1/RD8 (io), 69 ~{SS1}/IC2/RD9 (io), 70 SCK1/IC3/PMCS2/PMA15/RD10 (io), 71 EMDC/AEMDC/IC4/PMCS1/PMA14/RD11 (io), 72 SDO1/OC1/INT0/RD0 (io), 73 SOSCI/CN1/RC13 (io), 74 SOSCO/T1CK/CN0/RC14 (io), 75 VSS (power), 76 OC2/RD1 (io), 77 OC3/RD2 (io), 78 OC4/RD3 (io), 79 ETXD2/IC5/PMD12/RD12 (io), 80 ETXD3/PMD13/CN19/RD13 (io), 81 OC5/PMWR/CN13/RD4 (io), 82 PMRD/CN14/RD5 (io), 83 ETXEN/PMD14/CN15/RD6 (io), 84 ETXCLK/PMD15/CN16/RD7 (io), 85 VCAP/VDDCORE (power), 86 VDD (power), 87 ETXD1/PMD11/RF0 (io), 88 ETXD0/PMD10/RF1 (io), 89 ETXERR/PMD9/RG1 (io), 90 PMD8/RG0 (io), 91 TRCLK/RA6 (io), 92 TRD3/RA7 (io), 93 PMD0/RE0 (io), 94 PMD1/RE1 (io), 95 TRD2/RG14 (io), 96 TRD1/RG12 (io), 97 TRD0/RG13 (io), 98 PMD2/RE2 (io), 99 PMD3/RE3 (io), 100 PMD4/RE4 (io)